# Altium integrated library Altera Cyclone II.IntLib: 234 symbols (part 19 of 38)
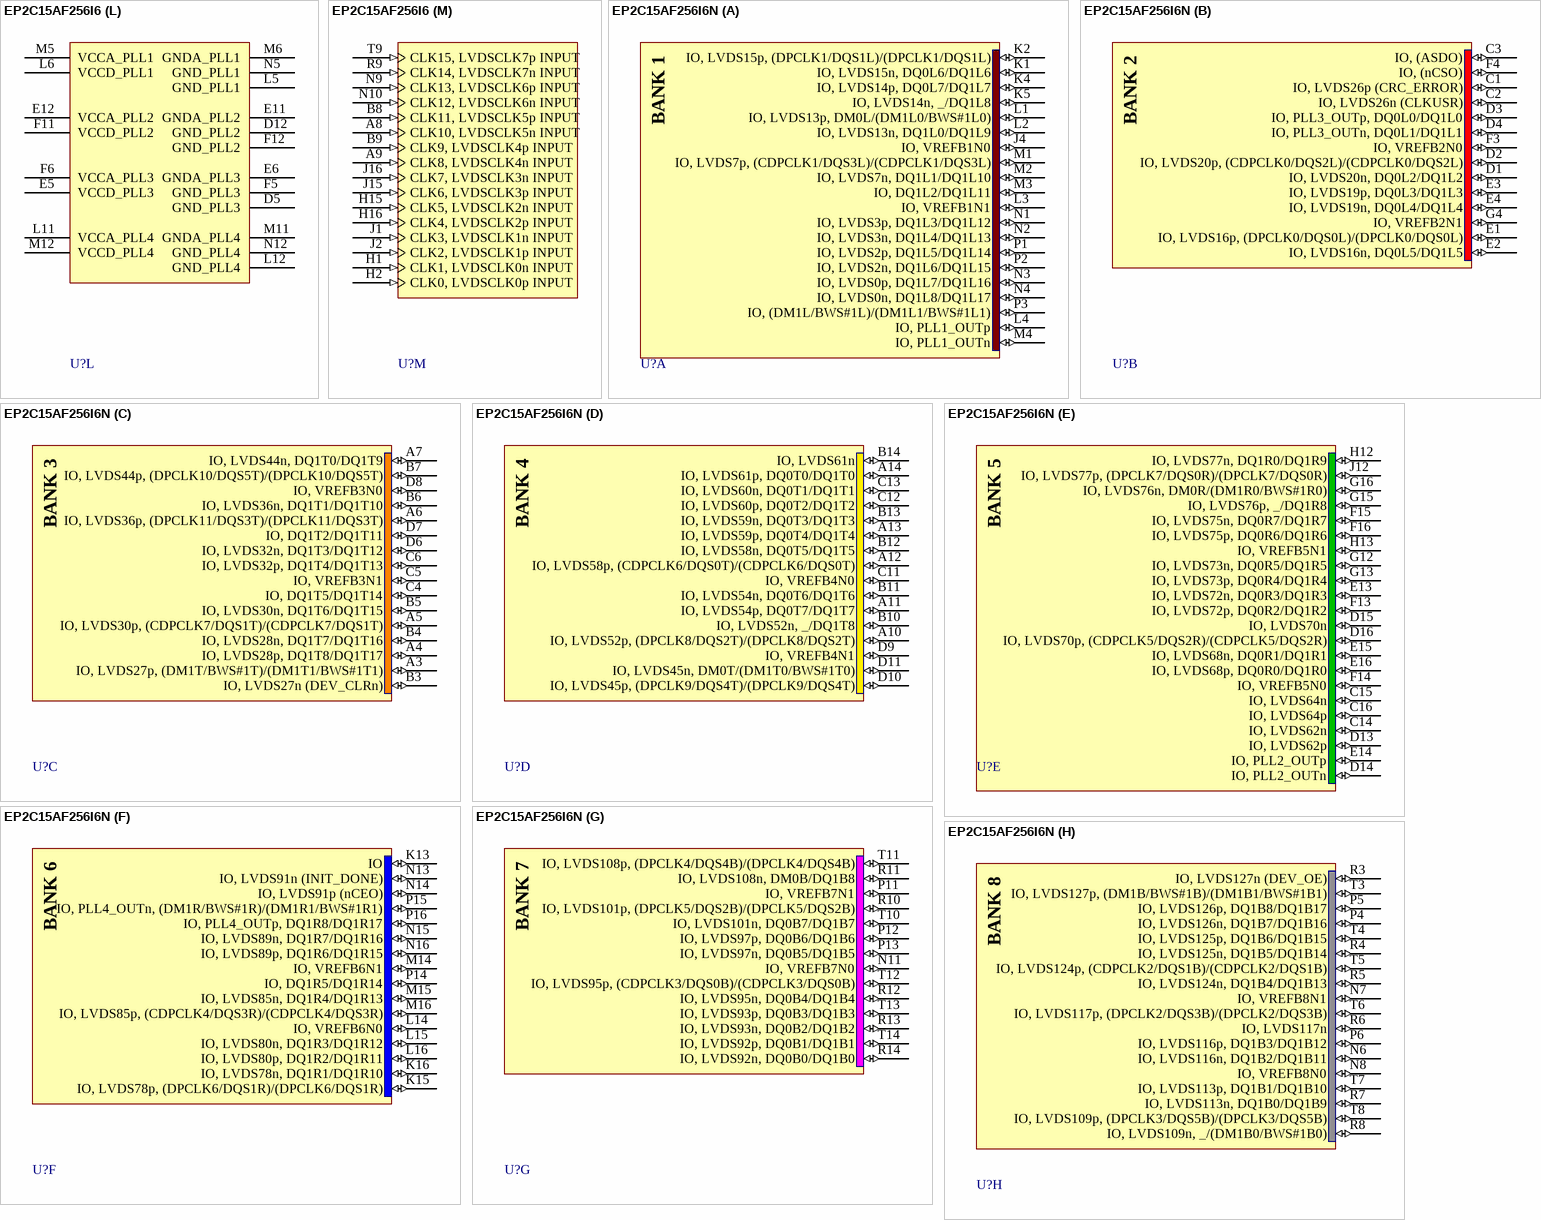
[diagram p409: symbols EP2C15AF256I6 to EP2C15AF256I6N]

## EP2C15AF256I6
designator U?
Cyclone II Family, 1.2V FPGA, 152 I/O Pins, 2 PLLs, 256-Pin FBGA, Speed Grade 6, Industrial Grade; Note: DQS signal pins named according to DQ bus modes.  "/" separates each mode. ie. Modes x8/x9 / Modes x16/x18.; DatasheetVersion: ver3.3, Feb-2008; PackageVersion: ver16.0, Dec-2009; PackageReference: FBGA256-2; PackageDescription: 256-Ball FineLine Ball Grid Array (FBGA256) - Option 2 - Wire Bond; Code_JEDEC: MO-192-DAF-1; ComponentLink1Description: Manufacturer URL; ComponentLink1URL: http://www.altera.com/; ComponentLink2Description: Handbook; ComponentLink2URL: http://www.altera.com/literature/hb/cyc2/cyc2_cii5v1.pdf; ComponentLink3Description: Package Specification; ComponentLink3URL: http://www.altera.com/literature/ds/dspkg.pdf
footprint FBGA256-2 (BGA, 256-Leads, Body 17x17mm, Pitch 1mm)
part A pins: J4 IO, VREFB1N0 (io), K1 IO, LVDS15n, DQ0L6/DQ1L6 (io), K2 IO, LVDS15p, (DPCLK1/DQS1L)/(DPCLK1/DQS1L) (io), K4 IO, LVDS14p, DQ0L7/DQ1L7 (io), K5 IO, LVDS14n, _/DQ1L8 (io), L1 IO, LVDS13p, DM0L/(DM1L0/BWS#1L0) (io), L2 IO, LVDS13n, DQ1L0/DQ1L9 (io), L3 IO, VREFB1N1 (io), L4 IO, PLL1_OUTp (io), M1 IO, LVDS7p, (CDPCLK1/DQS3L)/(CDPCLK1/DQS3L) (io), M2 IO, LVDS7n, DQ1L1/DQ1L10 (io), M3 IO, DQ1L2/DQ1L11 (io), M4 IO, PLL1_OUTn (io), N1 IO, LVDS3p, DQ1L3/DQ1L12 (io), N2 IO, LVDS3n, DQ1L4/DQ1L13 (io), N3 IO, LVDS0p, DQ1L7/DQ1L16 (io), N4 IO, LVDS0n, DQ1L8/DQ1L17 (io), P1 IO, LVDS2p, DQ1L5/DQ1L14 (io), P2 IO, LVDS2n, DQ1L6/DQ1L15 (io), P3 IO, (DM1L/BWS#1L)/(DM1L1/BWS#1L1) (io)
part B pins: C1 IO, LVDS26p (CRC_ERROR) (io), C2 IO, LVDS26n (CLKUSR) (io), C3 IO, (ASDO) (io), D1 IO, LVDS20n, DQ0L2/DQ1L2 (io), D2 IO, LVDS20p, (CDPCLK0/DQS2L)/(CDPCLK0/DQS2L) (io), D3 IO, PLL3_OUTp, DQ0L0/DQ1L0 (io), D4 IO, PLL3_OUTn, DQ0L1/DQ1L1 (io), E1 IO, LVDS16p, (DPCLK0/DQS0L)/(DPCLK0/DQS0L) (io), E2 IO, LVDS16n, DQ0L5/DQ1L5 (io), E3 IO, LVDS19p, DQ0L3/DQ1L3 (io), E4 IO, LVDS19n, DQ0L4/DQ1L4 (io), F3 IO, VREFB2N0 (io), F4 IO, (nCSO) (io), G4 IO, VREFB2N1 (io)
part C pins: A3 IO, LVDS27p, (DM1T/BWS#1T)/(DM1T1/BWS#1T1) (io), A4 IO, LVDS28p, DQ1T8/DQ1T17 (io), A5 IO, LVDS30p, (CDPCLK7/DQS1T)/(CDPCLK7/DQS1T) (io), A6 IO, LVDS36p, (DPCLK11/DQS3T)/(DPCLK11/DQS3T) (io), A7 IO, LVDS44n, DQ1T0/DQ1T9 (io), B3 IO, LVDS27n (DEV_CLRn) (io), B4 IO, LVDS28n, DQ1T7/DQ1T16 (io), B5 IO, LVDS30n, DQ1T6/DQ1T15 (io), B6 IO, LVDS36n, DQ1T1/DQ1T10 (io), B7 IO, LVDS44p, (DPCLK10/DQS5T)/(DPCLK10/DQS5T) (io), C4 IO, DQ1T5/DQ1T14 (io), C5 IO, VREFB3N1 (io), C6 IO, LVDS32p, DQ1T4/DQ1T13 (io), D6 IO, LVDS32n, DQ1T3/DQ1T12 (io), D7 IO, DQ1T2/DQ1T11 (io), D8 IO, VREFB3N0 (io)
part D pins: A10 IO, LVDS52p, (DPCLK8/DQS2T)/(DPCLK8/DQS2T) (io), A11 IO, LVDS54p, DQ0T7/DQ1T7 (io), A12 IO, LVDS58p, (CDPCLK6/DQS0T)/(CDPCLK6/DQS0T) (io), A13 IO, LVDS59p, DQ0T4/DQ1T4 (io), A14 IO, LVDS61p, DQ0T0/DQ1T0 (io), B10 IO, LVDS52n, _/DQ1T8 (io), B11 IO, LVDS54n, DQ0T6/DQ1T6 (io), B12 IO, LVDS58n, DQ0T5/DQ1T5 (io), B13 IO, LVDS59n, DQ0T3/DQ1T3 (io), B14 IO, LVDS61n (io), C11 IO, VREFB4N0 (io), C12 IO, LVDS60p, DQ0T2/DQ1T2 (io), C13 IO, LVDS60n, DQ0T1/DQ1T1 (io), D9 IO, VREFB4N1 (io), D10 IO, LVDS45p, (DPCLK9/DQS4T)/(DPCLK9/DQS4T) (io), D11 IO, LVDS45n, DM0T/(DM1T0/BWS#1T0) (io)
part E pins: C14 IO, LVDS62n (io), C15 IO, LVDS64n (io), C16 IO, LVDS64p (io), D13 IO, LVDS62p (io), D14 IO, PLL2_OUTn (io), D15 IO, LVDS70n (io), D16 IO, LVDS70p, (CDPCLK5/DQS2R)/(CDPCLK5/DQS2R) (io), E13 IO, LVDS72n, DQ0R3/DQ1R3 (io), E14 IO, PLL2_OUTp (io), E15 IO, LVDS68n, DQ0R1/DQ1R1 (io), E16 IO, LVDS68p, DQ0R0/DQ1R0 (io), F13 IO, LVDS72p, DQ0R2/DQ1R2 (io), F14 IO, VREFB5N0 (io), F15 IO, LVDS75n, DQ0R7/DQ1R7 (io), F16 IO, LVDS75p, DQ0R6/DQ1R6 (io), G12 IO, LVDS73n, DQ0R5/DQ1R5 (io), G13 IO, LVDS73p, DQ0R4/DQ1R4 (io), G15 IO, LVDS76p, _/DQ1R8 (io), G16 IO, LVDS76n, DM0R/(DM1R0/BWS#1R0) (io), H12 IO, LVDS77n, DQ1R0/DQ1R9 (io), H13 IO, VREFB5N1 (io), J12 IO, LVDS77p, (DPCLK7/DQS0R)/(DPCLK7/DQS0R) (io)
part F pins: K13 IO (io), K15 IO, LVDS78p, (DPCLK6/DQS1R)/(DPCLK6/DQS1R) (io), K16 IO, LVDS78n, DQ1R1/DQ1R10 (io), L14 IO, VREFB6N0 (io), L15 IO, LVDS80n, DQ1R3/DQ1R12 (io), L16 IO, LVDS80p, DQ1R2/DQ1R11 (io), M14 IO, VREFB6N1 (io), M15 IO, LVDS85n, DQ1R4/DQ1R13 (io), M16 IO, LVDS85p, (CDPCLK4/DQS3R)/(CDPCLK4/DQS3R) (io), N13 IO, LVDS91n (INIT_DONE) (io), N14 IO, LVDS91p (nCEO) (io), N15 IO, LVDS89n, DQ1R7/DQ1R16 (io), N16 IO, LVDS89p, DQ1R6/DQ1R15 (io), P14 IO, DQ1R5/DQ1R14 (io), P15 IO, PLL4_OUTn, (DM1R/BWS#1R)/(DM1R1/BWS#1R1) (io), P16 IO, PLL4_OUTp, DQ1R8/DQ1R17 (io)
part G pins: N11 IO, VREFB7N0 (io), P11 IO, VREFB7N1 (io), P12 IO, LVDS97p, DQ0B6/DQ1B6 (io), P13 IO, LVDS97n, DQ0B5/DQ1B5 (io), R10 IO, LVDS101p, (DPCLK5/DQS2B)/(DPCLK5/DQS2B) (io), R11 IO, LVDS108n, DM0B/DQ1B8 (io), R12 IO, LVDS95n, DQ0B4/DQ1B4 (io), R13 IO, LVDS93n, DQ0B2/DQ1B2 (io), R14 IO, LVDS92n, DQ0B0/DQ1B0 (io), T10 IO, LVDS101n, DQ0B7/DQ1B7 (io), T11 IO, LVDS108p, (DPCLK4/DQS4B)/(DPCLK4/DQS4B) (io), T12 IO, LVDS95p, (CDPCLK3/DQS0B)/(CDPCLK3/DQS0B) (io), T13 IO, LVDS93p, DQ0B3/DQ1B3 (io), T14 IO, LVDS92p, DQ0B1/DQ1B1 (io)
part H pins: N6 IO, LVDS116n, DQ1B2/DQ1B11 (io), N7 IO, VREFB8N1 (io), N8 IO, VREFB8N0 (io), P4 IO, LVDS126n, DQ1B7/DQ1B16 (io), P5 IO, LVDS126p, DQ1B8/DQ1B17 (io), P6 IO, LVDS116p, DQ1B3/DQ1B12 (io), R3 IO, LVDS127n (DEV_OE) (io), R4 IO, LVDS125n, DQ1B5/DQ1B14 (io), R5 IO, LVDS124n, DQ1B4/DQ1B13 (io), R6 IO, LVDS117n (io), R7 IO, LVDS113n, DQ1B0/DQ1B9 (io), R8 IO, LVDS109n, _/(DM1B0/BWS#1B0) (io), T3 IO, LVDS127p, (DM1B/BWS#1B)/(DM1B1/BWS#1B1) (io), T4 IO, LVDS125p, DQ1B6/DQ1B15 (io), T5 IO, LVDS124p, (CDPCLK2/DQS1B)/(CDPCLK2/DQS1B) (io), T6 IO, LVDS117p, (DPCLK2/DQS3B)/(DPCLK2/DQS3B) (io), T7 IO, LVDS113p, DQ1B1/DQ1B10 (io), T8 IO, LVDS109p, (DPCLK3/DQS5B)/(DPCLK3/DQS5B) (io)
part I pins: F1 DATA0 (in), F2 TCK (in), G1 TMS (in), G2 TDO (out), G5 nCE (in), H4 DCLK (io), H5 TDI (in), J5 nCONFIG (in), J13 MSEL0 (in), K12 MSEL1 (in), L13 CONF_DONE (io), M13 nSTATUS (io)
part J pins: A2 VCCIO3 (power), A15 VCCIO4 (power), B1 VCCIO2 (power), B16 VCCIO5 (power), C7 VCCIO3 (power), C10 VCCIO4 (power), E7 VCCIO3 (power), E10 VCCIO4 (power), F9 VCCINT (power), F10 VCCINT (power), G3 VCCIO2 (power), G7 VCCINT (power), G9 VCCINT (power), G11 VCCINT (power), G14 VCCIO5 (power), H7 VCCINT (power), H10 VCCINT (power), H11 VCCINT (power), J6 VCCINT (power), J7 VCCINT (power), J10 VCCINT (power), K3 VCCIO1 (power), K6 VCCINT (power), K8 VCCINT (power), K10 VCCINT (power), K14 VCCIO6 (power), L7 VCCINT (power), L8 VCCINT (power), M7 VCCIO8 (power), M10 VCCIO7 (power), P7 VCCIO8 (power), P10 VCCIO7 (power), R1 VCCIO1 (power), R16 VCCIO6 (power), T2 VCCIO8 (power), T15 VCCIO7 (power)
part K pins: A1 GND (power), A16 GND (power), B2 GND (power), B15 GND (power), C8 GND (power), C9 GND (power), E8 GND (power), E9 GND (power), F7 GND (power), F8 GND (power), G6 GND (power), G8 GND (power), G10 GND (power), H3 GND (power), H6 GND (power), H8 GND (power), H9 GND (power), H14 GND (power), J3 GND (power), J8 GND (power), J9 GND (power), J11 GND (power), J14 GND (power), K7 GND (power), K9 GND (power), K11 GND (power), L9 GND (power), L10 GND (power), M8 GND (power), M9 GND (power), P8 GND (power), P9 GND (power), R2 GND (power), R15 GND (power), T1 GND (power), T16 GND (power)
part L pins: D5 GND_PLL3 (power), D12 GND_PLL2 (power), E5 VCCD_PLL3 (power), E6 GNDA_PLL3 (power), E11 GNDA_PLL2 (power), E12 VCCA_PLL2 (power), F5 GND_PLL3 (power), F6 VCCA_PLL3 (power), F11 VCCD_PLL2 (power), F12 GND_PLL2 (power), L5 GND_PLL1 (power), L6 VCCD_PLL1 (power), L11 VCCA_PLL4 (power), L12 GND_PLL4 (power), M5 VCCA_PLL1 (power), M6 GNDA_PLL1 (power), M11 GNDA_PLL4 (power), M12 VCCD_PLL4 (power), N5 GND_PLL1 (power), N12 GND_PLL4 (power)
part M pins: A8 CLK10, LVDSCLK5n INPUT (in), A9 CLK8, LVDSCLK4n INPUT (in), B8 CLK11, LVDSCLK5p INPUT (in), B9 CLK9, LVDSCLK4p INPUT (in), H1 CLK1, LVDSCLK0n INPUT (in), H2 CLK0, LVDSCLK0p INPUT (in), H15 CLK5, LVDSCLK2n INPUT (in), H16 CLK4, LVDSCLK2p INPUT (in), J1 CLK3, LVDSCLK1n INPUT (in), J2 CLK2, LVDSCLK1p INPUT (in), J15 CLK6, LVDSCLK3p INPUT (in), J16 CLK7, LVDSCLK3n INPUT (in), N9 CLK13, LVDSCLK6p INPUT (in), N10 CLK12, LVDSCLK6n INPUT (in), R9 CLK14, LVDSCLK7n INPUT (in), T9 CLK15, LVDSCLK7p INPUT (in)
part A text: BANK 1
part B text: BANK 2
part C text: BANK 3
part D text: BANK 4
part E text: BANK 5
part F text: BANK 6
part G text: BANK 7
part H text: BANK 8

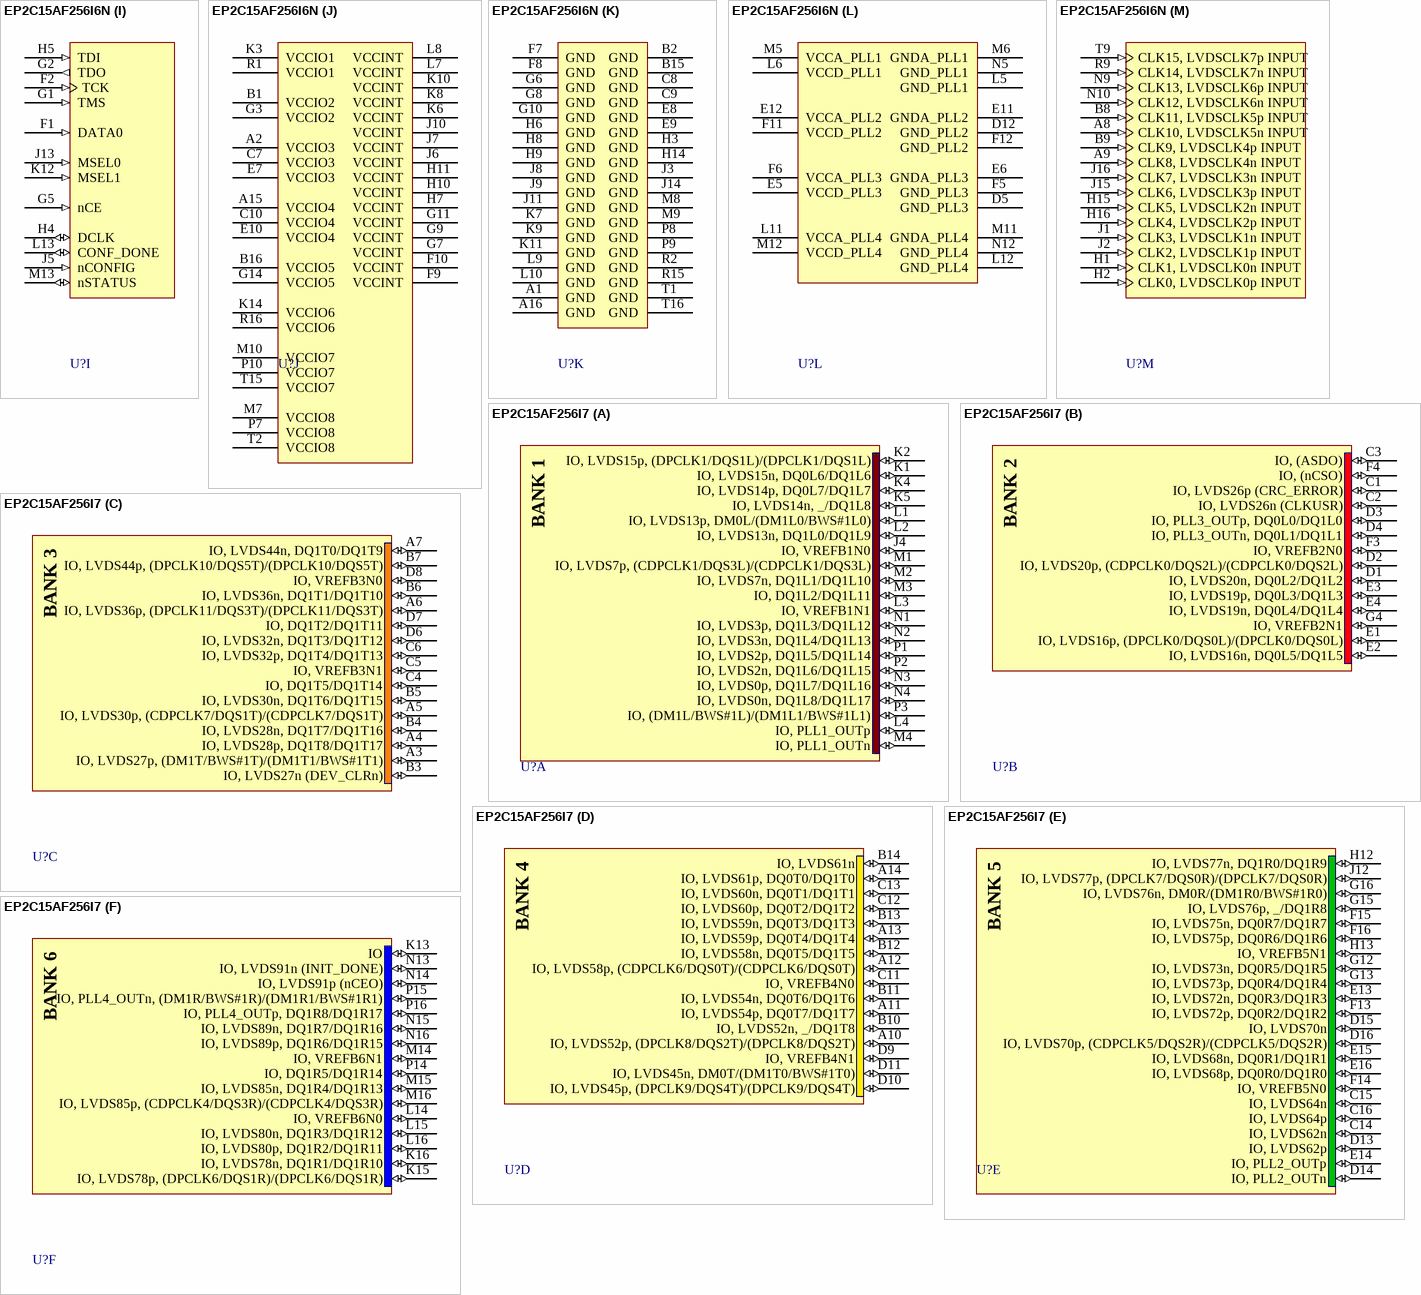
[diagram p75: symbols EP2C15AF256I6N to EP2C15AF256I7]

## EP2C15AF256I6N
designator U?
Cyclone II Family, 1.2V FPGA, 152 I/O Pins, 2 PLLs, 256-Pin FBGA, Speed Grade 6, Industrial Grade, Pb-Free; Note: DQS signal pins named according to DQ bus modes.  "/" separates each mode. ie. Modes x8/x9 / Modes x16/x18.; DatasheetVersion: ver3.3, Feb-2008; PackageVersion: ver16.0, Dec-2009; PackageReference: FBGA256-2; PackageDescription: 256-Ball FineLine Ball Grid Array (FBGA256) - Option 2 - Wire Bond; Code_JEDEC: MO-192-DAF-1; ComponentLink1Description: Manufacturer URL; ComponentLink1URL: http://www.altera.com/; ComponentLink2Description: Handbook; ComponentLink2URL: http://www.altera.com/literature/hb/cyc2/cyc2_cii5v1.pdf; ComponentLink3Description: Package Specification; ComponentLink3URL: http://www.altera.com/literature/ds/dspkg.pdf
footprint FBGA256-2 (BGA, 256-Leads, Body 17x17mm, Pitch 1mm)
part A pins: J4 IO, VREFB1N0 (io), K1 IO, LVDS15n, DQ0L6/DQ1L6 (io), K2 IO, LVDS15p, (DPCLK1/DQS1L)/(DPCLK1/DQS1L) (io), K4 IO, LVDS14p, DQ0L7/DQ1L7 (io), K5 IO, LVDS14n, _/DQ1L8 (io), L1 IO, LVDS13p, DM0L/(DM1L0/BWS#1L0) (io), L2 IO, LVDS13n, DQ1L0/DQ1L9 (io), L3 IO, VREFB1N1 (io), L4 IO, PLL1_OUTp (io), M1 IO, LVDS7p, (CDPCLK1/DQS3L)/(CDPCLK1/DQS3L) (io), M2 IO, LVDS7n, DQ1L1/DQ1L10 (io), M3 IO, DQ1L2/DQ1L11 (io), M4 IO, PLL1_OUTn (io), N1 IO, LVDS3p, DQ1L3/DQ1L12 (io), N2 IO, LVDS3n, DQ1L4/DQ1L13 (io), N3 IO, LVDS0p, DQ1L7/DQ1L16 (io), N4 IO, LVDS0n, DQ1L8/DQ1L17 (io), P1 IO, LVDS2p, DQ1L5/DQ1L14 (io), P2 IO, LVDS2n, DQ1L6/DQ1L15 (io), P3 IO, (DM1L/BWS#1L)/(DM1L1/BWS#1L1) (io)
part B pins: C1 IO, LVDS26p (CRC_ERROR) (io), C2 IO, LVDS26n (CLKUSR) (io), C3 IO, (ASDO) (io), D1 IO, LVDS20n, DQ0L2/DQ1L2 (io), D2 IO, LVDS20p, (CDPCLK0/DQS2L)/(CDPCLK0/DQS2L) (io), D3 IO, PLL3_OUTp, DQ0L0/DQ1L0 (io), D4 IO, PLL3_OUTn, DQ0L1/DQ1L1 (io), E1 IO, LVDS16p, (DPCLK0/DQS0L)/(DPCLK0/DQS0L) (io), E2 IO, LVDS16n, DQ0L5/DQ1L5 (io), E3 IO, LVDS19p, DQ0L3/DQ1L3 (io), E4 IO, LVDS19n, DQ0L4/DQ1L4 (io), F3 IO, VREFB2N0 (io), F4 IO, (nCSO) (io), G4 IO, VREFB2N1 (io)
part C pins: A3 IO, LVDS27p, (DM1T/BWS#1T)/(DM1T1/BWS#1T1) (io), A4 IO, LVDS28p, DQ1T8/DQ1T17 (io), A5 IO, LVDS30p, (CDPCLK7/DQS1T)/(CDPCLK7/DQS1T) (io), A6 IO, LVDS36p, (DPCLK11/DQS3T)/(DPCLK11/DQS3T) (io), A7 IO, LVDS44n, DQ1T0/DQ1T9 (io), B3 IO, LVDS27n (DEV_CLRn) (io), B4 IO, LVDS28n, DQ1T7/DQ1T16 (io), B5 IO, LVDS30n, DQ1T6/DQ1T15 (io), B6 IO, LVDS36n, DQ1T1/DQ1T10 (io), B7 IO, LVDS44p, (DPCLK10/DQS5T)/(DPCLK10/DQS5T) (io), C4 IO, DQ1T5/DQ1T14 (io), C5 IO, VREFB3N1 (io), C6 IO, LVDS32p, DQ1T4/DQ1T13 (io), D6 IO, LVDS32n, DQ1T3/DQ1T12 (io), D7 IO, DQ1T2/DQ1T11 (io), D8 IO, VREFB3N0 (io)
part D pins: A10 IO, LVDS52p, (DPCLK8/DQS2T)/(DPCLK8/DQS2T) (io), A11 IO, LVDS54p, DQ0T7/DQ1T7 (io), A12 IO, LVDS58p, (CDPCLK6/DQS0T)/(CDPCLK6/DQS0T) (io), A13 IO, LVDS59p, DQ0T4/DQ1T4 (io), A14 IO, LVDS61p, DQ0T0/DQ1T0 (io), B10 IO, LVDS52n, _/DQ1T8 (io), B11 IO, LVDS54n, DQ0T6/DQ1T6 (io), B12 IO, LVDS58n, DQ0T5/DQ1T5 (io), B13 IO, LVDS59n, DQ0T3/DQ1T3 (io), B14 IO, LVDS61n (io), C11 IO, VREFB4N0 (io), C12 IO, LVDS60p, DQ0T2/DQ1T2 (io), C13 IO, LVDS60n, DQ0T1/DQ1T1 (io), D9 IO, VREFB4N1 (io), D10 IO, LVDS45p, (DPCLK9/DQS4T)/(DPCLK9/DQS4T) (io), D11 IO, LVDS45n, DM0T/(DM1T0/BWS#1T0) (io)
part E pins: C14 IO, LVDS62n (io), C15 IO, LVDS64n (io), C16 IO, LVDS64p (io), D13 IO, LVDS62p (io), D14 IO, PLL2_OUTn (io), D15 IO, LVDS70n (io), D16 IO, LVDS70p, (CDPCLK5/DQS2R)/(CDPCLK5/DQS2R) (io), E13 IO, LVDS72n, DQ0R3/DQ1R3 (io), E14 IO, PLL2_OUTp (io), E15 IO, LVDS68n, DQ0R1/DQ1R1 (io), E16 IO, LVDS68p, DQ0R0/DQ1R0 (io), F13 IO, LVDS72p, DQ0R2/DQ1R2 (io), F14 IO, VREFB5N0 (io), F15 IO, LVDS75n, DQ0R7/DQ1R7 (io), F16 IO, LVDS75p, DQ0R6/DQ1R6 (io), G12 IO, LVDS73n, DQ0R5/DQ1R5 (io), G13 IO, LVDS73p, DQ0R4/DQ1R4 (io), G15 IO, LVDS76p, _/DQ1R8 (io), G16 IO, LVDS76n, DM0R/(DM1R0/BWS#1R0) (io), H12 IO, LVDS77n, DQ1R0/DQ1R9 (io), H13 IO, VREFB5N1 (io), J12 IO, LVDS77p, (DPCLK7/DQS0R)/(DPCLK7/DQS0R) (io)
part F pins: K13 IO (io), K15 IO, LVDS78p, (DPCLK6/DQS1R)/(DPCLK6/DQS1R) (io), K16 IO, LVDS78n, DQ1R1/DQ1R10 (io), L14 IO, VREFB6N0 (io), L15 IO, LVDS80n, DQ1R3/DQ1R12 (io), L16 IO, LVDS80p, DQ1R2/DQ1R11 (io), M14 IO, VREFB6N1 (io), M15 IO, LVDS85n, DQ1R4/DQ1R13 (io), M16 IO, LVDS85p, (CDPCLK4/DQS3R)/(CDPCLK4/DQS3R) (io), N13 IO, LVDS91n (INIT_DONE) (io), N14 IO, LVDS91p (nCEO) (io), N15 IO, LVDS89n, DQ1R7/DQ1R16 (io), N16 IO, LVDS89p, DQ1R6/DQ1R15 (io), P14 IO, DQ1R5/DQ1R14 (io), P15 IO, PLL4_OUTn, (DM1R/BWS#1R)/(DM1R1/BWS#1R1) (io), P16 IO, PLL4_OUTp, DQ1R8/DQ1R17 (io)
part G pins: N11 IO, VREFB7N0 (io), P11 IO, VREFB7N1 (io), P12 IO, LVDS97p, DQ0B6/DQ1B6 (io), P13 IO, LVDS97n, DQ0B5/DQ1B5 (io), R10 IO, LVDS101p, (DPCLK5/DQS2B)/(DPCLK5/DQS2B) (io), R11 IO, LVDS108n, DM0B/DQ1B8 (io), R12 IO, LVDS95n, DQ0B4/DQ1B4 (io), R13 IO, LVDS93n, DQ0B2/DQ1B2 (io), R14 IO, LVDS92n, DQ0B0/DQ1B0 (io), T10 IO, LVDS101n, DQ0B7/DQ1B7 (io), T11 IO, LVDS108p, (DPCLK4/DQS4B)/(DPCLK4/DQS4B) (io), T12 IO, LVDS95p, (CDPCLK3/DQS0B)/(CDPCLK3/DQS0B) (io), T13 IO, LVDS93p, DQ0B3/DQ1B3 (io), T14 IO, LVDS92p, DQ0B1/DQ1B1 (io)
part H pins: N6 IO, LVDS116n, DQ1B2/DQ1B11 (io), N7 IO, VREFB8N1 (io), N8 IO, VREFB8N0 (io), P4 IO, LVDS126n, DQ1B7/DQ1B16 (io), P5 IO, LVDS126p, DQ1B8/DQ1B17 (io), P6 IO, LVDS116p, DQ1B3/DQ1B12 (io), R3 IO, LVDS127n (DEV_OE) (io), R4 IO, LVDS125n, DQ1B5/DQ1B14 (io), R5 IO, LVDS124n, DQ1B4/DQ1B13 (io), R6 IO, LVDS117n (io), R7 IO, LVDS113n, DQ1B0/DQ1B9 (io), R8 IO, LVDS109n, _/(DM1B0/BWS#1B0) (io), T3 IO, LVDS127p, (DM1B/BWS#1B)/(DM1B1/BWS#1B1) (io), T4 IO, LVDS125p, DQ1B6/DQ1B15 (io), T5 IO, LVDS124p, (CDPCLK2/DQS1B)/(CDPCLK2/DQS1B) (io), T6 IO, LVDS117p, (DPCLK2/DQS3B)/(DPCLK2/DQS3B) (io), T7 IO, LVDS113p, DQ1B1/DQ1B10 (io), T8 IO, LVDS109p, (DPCLK3/DQS5B)/(DPCLK3/DQS5B) (io)
part I pins: F1 DATA0 (in), F2 TCK (in), G1 TMS (in), G2 TDO (out), G5 nCE (in), H4 DCLK (io), H5 TDI (in), J5 nCONFIG (in), J13 MSEL0 (in), K12 MSEL1 (in), L13 CONF_DONE (io), M13 nSTATUS (io)
part J pins: A2 VCCIO3 (power), A15 VCCIO4 (power), B1 VCCIO2 (power), B16 VCCIO5 (power), C7 VCCIO3 (power), C10 VCCIO4 (power), E7 VCCIO3 (power), E10 VCCIO4 (power), F9 VCCINT (power), F10 VCCINT (power), G3 VCCIO2 (power), G7 VCCINT (power), G9 VCCINT (power), G11 VCCINT (power), G14 VCCIO5 (power), H7 VCCINT (power), H10 VCCINT (power), H11 VCCINT (power), J6 VCCINT (power), J7 VCCINT (power), J10 VCCINT (power), K3 VCCIO1 (power), K6 VCCINT (power), K8 VCCINT (power), K10 VCCINT (power), K14 VCCIO6 (power), L7 VCCINT (power), L8 VCCINT (power), M7 VCCIO8 (power), M10 VCCIO7 (power), P7 VCCIO8 (power), P10 VCCIO7 (power), R1 VCCIO1 (power), R16 VCCIO6 (power), T2 VCCIO8 (power), T15 VCCIO7 (power)
part K pins: A1 GND (power), A16 GND (power), B2 GND (power), B15 GND (power), C8 GND (power), C9 GND (power), E8 GND (power), E9 GND (power), F7 GND (power), F8 GND (power), G6 GND (power), G8 GND (power), G10 GND (power), H3 GND (power), H6 GND (power), H8 GND (power), H9 GND (power), H14 GND (power), J3 GND (power), J8 GND (power), J9 GND (power), J11 GND (power), J14 GND (power), K7 GND (power), K9 GND (power), K11 GND (power), L9 GND (power), L10 GND (power), M8 GND (power), M9 GND (power), P8 GND (power), P9 GND (power), R2 GND (power), R15 GND (power), T1 GND (power), T16 GND (power)
part L pins: D5 GND_PLL3 (power), D12 GND_PLL2 (power), E5 VCCD_PLL3 (power), E6 GNDA_PLL3 (power), E11 GNDA_PLL2 (power), E12 VCCA_PLL2 (power), F5 GND_PLL3 (power), F6 VCCA_PLL3 (power), F11 VCCD_PLL2 (power), F12 GND_PLL2 (power), L5 GND_PLL1 (power), L6 VCCD_PLL1 (power), L11 VCCA_PLL4 (power), L12 GND_PLL4 (power), M5 VCCA_PLL1 (power), M6 GNDA_PLL1 (power), M11 GNDA_PLL4 (power), M12 VCCD_PLL4 (power), N5 GND_PLL1 (power), N12 GND_PLL4 (power)
part M pins: A8 CLK10, LVDSCLK5n INPUT (in), A9 CLK8, LVDSCLK4n INPUT (in), B8 CLK11, LVDSCLK5p INPUT (in), B9 CLK9, LVDSCLK4p INPUT (in), H1 CLK1, LVDSCLK0n INPUT (in), H2 CLK0, LVDSCLK0p INPUT (in), H15 CLK5, LVDSCLK2n INPUT (in), H16 CLK4, LVDSCLK2p INPUT (in), J1 CLK3, LVDSCLK1n INPUT (in), J2 CLK2, LVDSCLK1p INPUT (in), J15 CLK6, LVDSCLK3p INPUT (in), J16 CLK7, LVDSCLK3n INPUT (in), N9 CLK13, LVDSCLK6p INPUT (in), N10 CLK12, LVDSCLK6n INPUT (in), R9 CLK14, LVDSCLK7n INPUT (in), T9 CLK15, LVDSCLK7p INPUT (in)
part A text: BANK 1
part B text: BANK 2
part C text: BANK 3
part D text: BANK 4
part E text: BANK 5
part F text: BANK 6
part G text: BANK 7
part H text: BANK 8

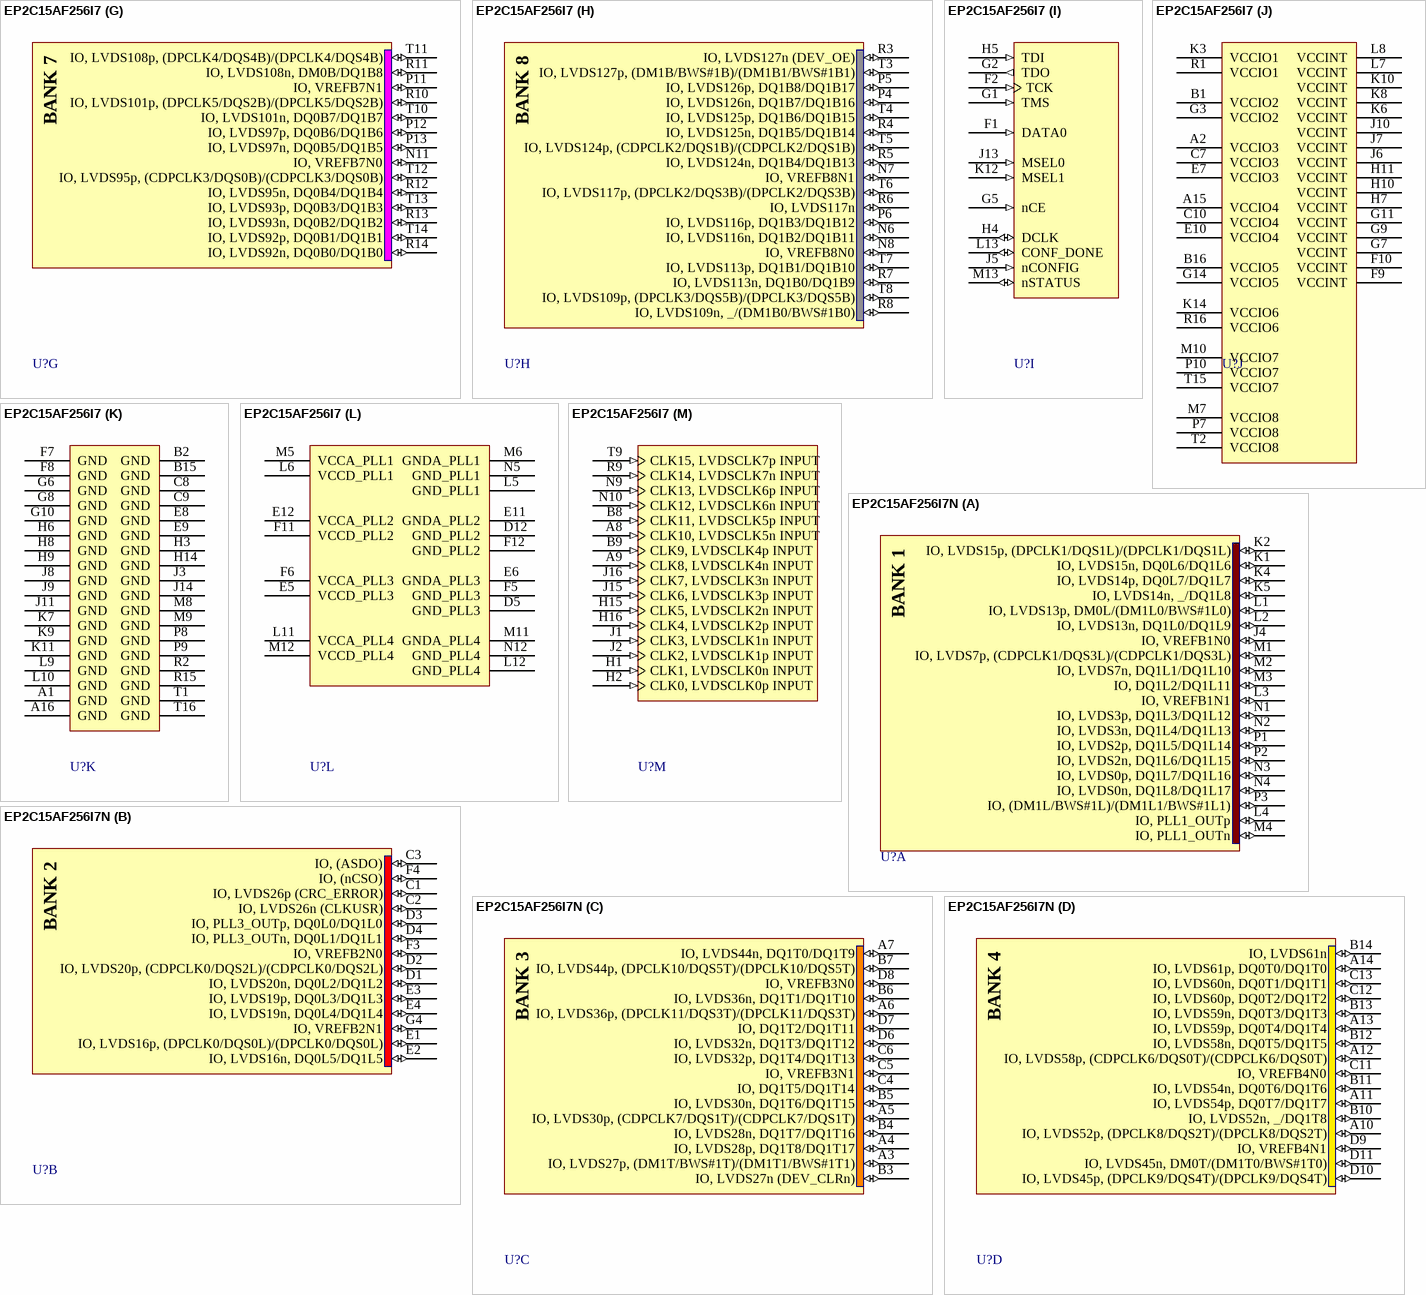
[diagram p76: symbols EP2C15AF256I7 to EP2C15AF256I7N]

## EP2C15AF256I7
designator U?
Cyclone II Family, 1.2V FPGA, 152 I/O Pins, 2 PLLs, 256-Pin FBGA, Speed Grade 7, Industrial Grade; Note: DQS signal pins named according to DQ bus modes.  "/" separates each mode. ie. Modes x8/x9 / Modes x16/x18.; DatasheetVersion: ver3.3, Feb-2008; PackageVersion: ver16.0, Dec-2009; PackageReference: FBGA256-2; PackageDescription: 256-Ball FineLine Ball Grid Array (FBGA256) - Option 2 - Wire Bond; Code_JEDEC: MO-192-DAF-1; ComponentLink1Description: Manufacturer URL; ComponentLink1URL: http://www.altera.com/; ComponentLink2Description: Handbook; ComponentLink2URL: http://www.altera.com/literature/hb/cyc2/cyc2_cii5v1.pdf; ComponentLink3Description: Package Specification; ComponentLink3URL: http://www.altera.com/literature/ds/dspkg.pdf
footprint FBGA256-2 (BGA, 256-Leads, Body 17x17mm, Pitch 1mm)
part A pins: J4 IO, VREFB1N0 (io), K1 IO, LVDS15n, DQ0L6/DQ1L6 (io), K2 IO, LVDS15p, (DPCLK1/DQS1L)/(DPCLK1/DQS1L) (io), K4 IO, LVDS14p, DQ0L7/DQ1L7 (io), K5 IO, LVDS14n, _/DQ1L8 (io), L1 IO, LVDS13p, DM0L/(DM1L0/BWS#1L0) (io), L2 IO, LVDS13n, DQ1L0/DQ1L9 (io), L3 IO, VREFB1N1 (io), L4 IO, PLL1_OUTp (io), M1 IO, LVDS7p, (CDPCLK1/DQS3L)/(CDPCLK1/DQS3L) (io), M2 IO, LVDS7n, DQ1L1/DQ1L10 (io), M3 IO, DQ1L2/DQ1L11 (io), M4 IO, PLL1_OUTn (io), N1 IO, LVDS3p, DQ1L3/DQ1L12 (io), N2 IO, LVDS3n, DQ1L4/DQ1L13 (io), N3 IO, LVDS0p, DQ1L7/DQ1L16 (io), N4 IO, LVDS0n, DQ1L8/DQ1L17 (io), P1 IO, LVDS2p, DQ1L5/DQ1L14 (io), P2 IO, LVDS2n, DQ1L6/DQ1L15 (io), P3 IO, (DM1L/BWS#1L)/(DM1L1/BWS#1L1) (io)
part B pins: C1 IO, LVDS26p (CRC_ERROR) (io), C2 IO, LVDS26n (CLKUSR) (io), C3 IO, (ASDO) (io), D1 IO, LVDS20n, DQ0L2/DQ1L2 (io), D2 IO, LVDS20p, (CDPCLK0/DQS2L)/(CDPCLK0/DQS2L) (io), D3 IO, PLL3_OUTp, DQ0L0/DQ1L0 (io), D4 IO, PLL3_OUTn, DQ0L1/DQ1L1 (io), E1 IO, LVDS16p, (DPCLK0/DQS0L)/(DPCLK0/DQS0L) (io), E2 IO, LVDS16n, DQ0L5/DQ1L5 (io), E3 IO, LVDS19p, DQ0L3/DQ1L3 (io), E4 IO, LVDS19n, DQ0L4/DQ1L4 (io), F3 IO, VREFB2N0 (io), F4 IO, (nCSO) (io), G4 IO, VREFB2N1 (io)
part C pins: A3 IO, LVDS27p, (DM1T/BWS#1T)/(DM1T1/BWS#1T1) (io), A4 IO, LVDS28p, DQ1T8/DQ1T17 (io), A5 IO, LVDS30p, (CDPCLK7/DQS1T)/(CDPCLK7/DQS1T) (io), A6 IO, LVDS36p, (DPCLK11/DQS3T)/(DPCLK11/DQS3T) (io), A7 IO, LVDS44n, DQ1T0/DQ1T9 (io), B3 IO, LVDS27n (DEV_CLRn) (io), B4 IO, LVDS28n, DQ1T7/DQ1T16 (io), B5 IO, LVDS30n, DQ1T6/DQ1T15 (io), B6 IO, LVDS36n, DQ1T1/DQ1T10 (io), B7 IO, LVDS44p, (DPCLK10/DQS5T)/(DPCLK10/DQS5T) (io), C4 IO, DQ1T5/DQ1T14 (io), C5 IO, VREFB3N1 (io), C6 IO, LVDS32p, DQ1T4/DQ1T13 (io), D6 IO, LVDS32n, DQ1T3/DQ1T12 (io), D7 IO, DQ1T2/DQ1T11 (io), D8 IO, VREFB3N0 (io)
part D pins: A10 IO, LVDS52p, (DPCLK8/DQS2T)/(DPCLK8/DQS2T) (io), A11 IO, LVDS54p, DQ0T7/DQ1T7 (io), A12 IO, LVDS58p, (CDPCLK6/DQS0T)/(CDPCLK6/DQS0T) (io), A13 IO, LVDS59p, DQ0T4/DQ1T4 (io), A14 IO, LVDS61p, DQ0T0/DQ1T0 (io), B10 IO, LVDS52n, _/DQ1T8 (io), B11 IO, LVDS54n, DQ0T6/DQ1T6 (io), B12 IO, LVDS58n, DQ0T5/DQ1T5 (io), B13 IO, LVDS59n, DQ0T3/DQ1T3 (io), B14 IO, LVDS61n (io), C11 IO, VREFB4N0 (io), C12 IO, LVDS60p, DQ0T2/DQ1T2 (io), C13 IO, LVDS60n, DQ0T1/DQ1T1 (io), D9 IO, VREFB4N1 (io), D10 IO, LVDS45p, (DPCLK9/DQS4T)/(DPCLK9/DQS4T) (io), D11 IO, LVDS45n, DM0T/(DM1T0/BWS#1T0) (io)
part E pins: C14 IO, LVDS62n (io), C15 IO, LVDS64n (io), C16 IO, LVDS64p (io), D13 IO, LVDS62p (io), D14 IO, PLL2_OUTn (io), D15 IO, LVDS70n (io), D16 IO, LVDS70p, (CDPCLK5/DQS2R)/(CDPCLK5/DQS2R) (io), E13 IO, LVDS72n, DQ0R3/DQ1R3 (io), E14 IO, PLL2_OUTp (io), E15 IO, LVDS68n, DQ0R1/DQ1R1 (io), E16 IO, LVDS68p, DQ0R0/DQ1R0 (io), F13 IO, LVDS72p, DQ0R2/DQ1R2 (io), F14 IO, VREFB5N0 (io), F15 IO, LVDS75n, DQ0R7/DQ1R7 (io), F16 IO, LVDS75p, DQ0R6/DQ1R6 (io), G12 IO, LVDS73n, DQ0R5/DQ1R5 (io), G13 IO, LVDS73p, DQ0R4/DQ1R4 (io), G15 IO, LVDS76p, _/DQ1R8 (io), G16 IO, LVDS76n, DM0R/(DM1R0/BWS#1R0) (io), H12 IO, LVDS77n, DQ1R0/DQ1R9 (io), H13 IO, VREFB5N1 (io), J12 IO, LVDS77p, (DPCLK7/DQS0R)/(DPCLK7/DQS0R) (io)
part F pins: K13 IO (io), K15 IO, LVDS78p, (DPCLK6/DQS1R)/(DPCLK6/DQS1R) (io), K16 IO, LVDS78n, DQ1R1/DQ1R10 (io), L14 IO, VREFB6N0 (io), L15 IO, LVDS80n, DQ1R3/DQ1R12 (io), L16 IO, LVDS80p, DQ1R2/DQ1R11 (io), M14 IO, VREFB6N1 (io), M15 IO, LVDS85n, DQ1R4/DQ1R13 (io), M16 IO, LVDS85p, (CDPCLK4/DQS3R)/(CDPCLK4/DQS3R) (io), N13 IO, LVDS91n (INIT_DONE) (io), N14 IO, LVDS91p (nCEO) (io), N15 IO, LVDS89n, DQ1R7/DQ1R16 (io), N16 IO, LVDS89p, DQ1R6/DQ1R15 (io), P14 IO, DQ1R5/DQ1R14 (io), P15 IO, PLL4_OUTn, (DM1R/BWS#1R)/(DM1R1/BWS#1R1) (io), P16 IO, PLL4_OUTp, DQ1R8/DQ1R17 (io)
part G pins: N11 IO, VREFB7N0 (io), P11 IO, VREFB7N1 (io), P12 IO, LVDS97p, DQ0B6/DQ1B6 (io), P13 IO, LVDS97n, DQ0B5/DQ1B5 (io), R10 IO, LVDS101p, (DPCLK5/DQS2B)/(DPCLK5/DQS2B) (io), R11 IO, LVDS108n, DM0B/DQ1B8 (io), R12 IO, LVDS95n, DQ0B4/DQ1B4 (io), R13 IO, LVDS93n, DQ0B2/DQ1B2 (io), R14 IO, LVDS92n, DQ0B0/DQ1B0 (io), T10 IO, LVDS101n, DQ0B7/DQ1B7 (io), T11 IO, LVDS108p, (DPCLK4/DQS4B)/(DPCLK4/DQS4B) (io), T12 IO, LVDS95p, (CDPCLK3/DQS0B)/(CDPCLK3/DQS0B) (io), T13 IO, LVDS93p, DQ0B3/DQ1B3 (io), T14 IO, LVDS92p, DQ0B1/DQ1B1 (io)
part H pins: N6 IO, LVDS116n, DQ1B2/DQ1B11 (io), N7 IO, VREFB8N1 (io), N8 IO, VREFB8N0 (io), P4 IO, LVDS126n, DQ1B7/DQ1B16 (io), P5 IO, LVDS126p, DQ1B8/DQ1B17 (io), P6 IO, LVDS116p, DQ1B3/DQ1B12 (io), R3 IO, LVDS127n (DEV_OE) (io), R4 IO, LVDS125n, DQ1B5/DQ1B14 (io), R5 IO, LVDS124n, DQ1B4/DQ1B13 (io), R6 IO, LVDS117n (io), R7 IO, LVDS113n, DQ1B0/DQ1B9 (io), R8 IO, LVDS109n, _/(DM1B0/BWS#1B0) (io), T3 IO, LVDS127p, (DM1B/BWS#1B)/(DM1B1/BWS#1B1) (io), T4 IO, LVDS125p, DQ1B6/DQ1B15 (io), T5 IO, LVDS124p, (CDPCLK2/DQS1B)/(CDPCLK2/DQS1B) (io), T6 IO, LVDS117p, (DPCLK2/DQS3B)/(DPCLK2/DQS3B) (io), T7 IO, LVDS113p, DQ1B1/DQ1B10 (io), T8 IO, LVDS109p, (DPCLK3/DQS5B)/(DPCLK3/DQS5B) (io)
part I pins: F1 DATA0 (in), F2 TCK (in), G1 TMS (in), G2 TDO (out), G5 nCE (in), H4 DCLK (io), H5 TDI (in), J5 nCONFIG (in), J13 MSEL0 (in), K12 MSEL1 (in), L13 CONF_DONE (io), M13 nSTATUS (io)
part J pins: A2 VCCIO3 (power), A15 VCCIO4 (power), B1 VCCIO2 (power), B16 VCCIO5 (power), C7 VCCIO3 (power), C10 VCCIO4 (power), E7 VCCIO3 (power), E10 VCCIO4 (power), F9 VCCINT (power), F10 VCCINT (power), G3 VCCIO2 (power), G7 VCCINT (power), G9 VCCINT (power), G11 VCCINT (power), G14 VCCIO5 (power), H7 VCCINT (power), H10 VCCINT (power), H11 VCCINT (power), J6 VCCINT (power), J7 VCCINT (power), J10 VCCINT (power), K3 VCCIO1 (power), K6 VCCINT (power), K8 VCCINT (power), K10 VCCINT (power), K14 VCCIO6 (power), L7 VCCINT (power), L8 VCCINT (power), M7 VCCIO8 (power), M10 VCCIO7 (power), P7 VCCIO8 (power), P10 VCCIO7 (power), R1 VCCIO1 (power), R16 VCCIO6 (power), T2 VCCIO8 (power), T15 VCCIO7 (power)
part K pins: A1 GND (power), A16 GND (power), B2 GND (power), B15 GND (power), C8 GND (power), C9 GND (power), E8 GND (power), E9 GND (power), F7 GND (power), F8 GND (power), G6 GND (power), G8 GND (power), G10 GND (power), H3 GND (power), H6 GND (power), H8 GND (power), H9 GND (power), H14 GND (power), J3 GND (power), J8 GND (power), J9 GND (power), J11 GND (power), J14 GND (power), K7 GND (power), K9 GND (power), K11 GND (power), L9 GND (power), L10 GND (power), M8 GND (power), M9 GND (power), P8 GND (power), P9 GND (power), R2 GND (power), R15 GND (power), T1 GND (power), T16 GND (power)
part L pins: D5 GND_PLL3 (power), D12 GND_PLL2 (power), E5 VCCD_PLL3 (power), E6 GNDA_PLL3 (power), E11 GNDA_PLL2 (power), E12 VCCA_PLL2 (power), F5 GND_PLL3 (power), F6 VCCA_PLL3 (power), F11 VCCD_PLL2 (power), F12 GND_PLL2 (power), L5 GND_PLL1 (power), L6 VCCD_PLL1 (power), L11 VCCA_PLL4 (power), L12 GND_PLL4 (power), M5 VCCA_PLL1 (power), M6 GNDA_PLL1 (power), M11 GNDA_PLL4 (power), M12 VCCD_PLL4 (power), N5 GND_PLL1 (power), N12 GND_PLL4 (power)
part M pins: A8 CLK10, LVDSCLK5n INPUT (in), A9 CLK8, LVDSCLK4n INPUT (in), B8 CLK11, LVDSCLK5p INPUT (in), B9 CLK9, LVDSCLK4p INPUT (in), H1 CLK1, LVDSCLK0n INPUT (in), H2 CLK0, LVDSCLK0p INPUT (in), H15 CLK5, LVDSCLK2n INPUT (in), H16 CLK4, LVDSCLK2p INPUT (in), J1 CLK3, LVDSCLK1n INPUT (in), J2 CLK2, LVDSCLK1p INPUT (in), J15 CLK6, LVDSCLK3p INPUT (in), J16 CLK7, LVDSCLK3n INPUT (in), N9 CLK13, LVDSCLK6p INPUT (in), N10 CLK12, LVDSCLK6n INPUT (in), R9 CLK14, LVDSCLK7n INPUT (in), T9 CLK15, LVDSCLK7p INPUT (in)
part A text: BANK 1
part B text: BANK 2
part C text: BANK 3
part D text: BANK 4
part E text: BANK 5
part F text: BANK 6
part G text: BANK 7
part H text: BANK 8

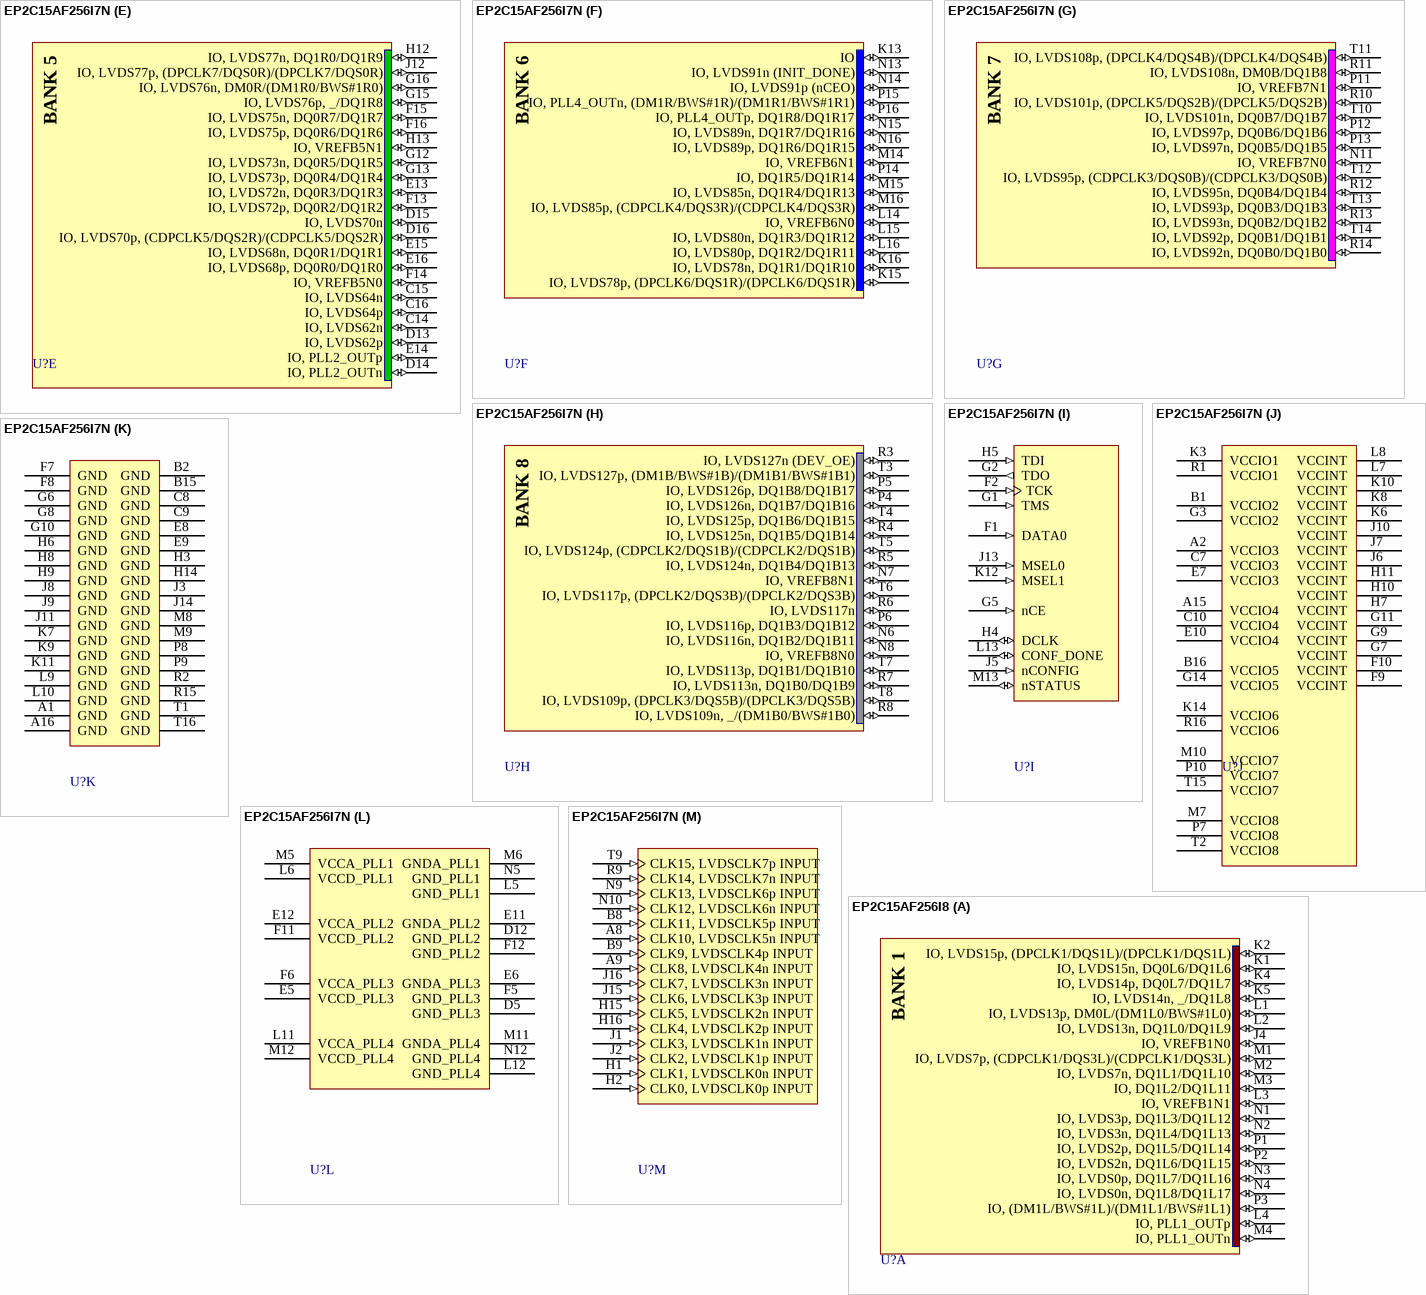
[diagram p77: symbols EP2C15AF256I7N to EP2C15AF256I8]

## EP2C15AF256I7N
designator U?
Cyclone II Family, 1.2V FPGA, 152 I/O Pins, 2 PLLs, 256-Pin FBGA, Speed Grade 7, Industrial Grade, Pb-Free; Note: DQS signal pins named according to DQ bus modes.  "/" separates each mode. ie. Modes x8/x9 / Modes x16/x18.; DatasheetVersion: ver3.3, Feb-2008; PackageVersion: ver16.0, Dec-2009; PackageReference: FBGA256-2; PackageDescription: 256-Ball FineLine Ball Grid Array (FBGA256) - Option 2 - Wire Bond; Code_JEDEC: MO-192-DAF-1; ComponentLink1Description: Manufacturer URL; ComponentLink1URL: http://www.altera.com/; ComponentLink2Description: Handbook; ComponentLink2URL: http://www.altera.com/literature/hb/cyc2/cyc2_cii5v1.pdf; ComponentLink3Description: Package Specification; ComponentLink3URL: http://www.altera.com/literature/ds/dspkg.pdf
footprint FBGA256-2 (BGA, 256-Leads, Body 17x17mm, Pitch 1mm)
part A pins: J4 IO, VREFB1N0 (io), K1 IO, LVDS15n, DQ0L6/DQ1L6 (io), K2 IO, LVDS15p, (DPCLK1/DQS1L)/(DPCLK1/DQS1L) (io), K4 IO, LVDS14p, DQ0L7/DQ1L7 (io), K5 IO, LVDS14n, _/DQ1L8 (io), L1 IO, LVDS13p, DM0L/(DM1L0/BWS#1L0) (io), L2 IO, LVDS13n, DQ1L0/DQ1L9 (io), L3 IO, VREFB1N1 (io), L4 IO, PLL1_OUTp (io), M1 IO, LVDS7p, (CDPCLK1/DQS3L)/(CDPCLK1/DQS3L) (io), M2 IO, LVDS7n, DQ1L1/DQ1L10 (io), M3 IO, DQ1L2/DQ1L11 (io), M4 IO, PLL1_OUTn (io), N1 IO, LVDS3p, DQ1L3/DQ1L12 (io), N2 IO, LVDS3n, DQ1L4/DQ1L13 (io), N3 IO, LVDS0p, DQ1L7/DQ1L16 (io), N4 IO, LVDS0n, DQ1L8/DQ1L17 (io), P1 IO, LVDS2p, DQ1L5/DQ1L14 (io), P2 IO, LVDS2n, DQ1L6/DQ1L15 (io), P3 IO, (DM1L/BWS#1L)/(DM1L1/BWS#1L1) (io)
part B pins: C1 IO, LVDS26p (CRC_ERROR) (io), C2 IO, LVDS26n (CLKUSR) (io), C3 IO, (ASDO) (io), D1 IO, LVDS20n, DQ0L2/DQ1L2 (io), D2 IO, LVDS20p, (CDPCLK0/DQS2L)/(CDPCLK0/DQS2L) (io), D3 IO, PLL3_OUTp, DQ0L0/DQ1L0 (io), D4 IO, PLL3_OUTn, DQ0L1/DQ1L1 (io), E1 IO, LVDS16p, (DPCLK0/DQS0L)/(DPCLK0/DQS0L) (io), E2 IO, LVDS16n, DQ0L5/DQ1L5 (io), E3 IO, LVDS19p, DQ0L3/DQ1L3 (io), E4 IO, LVDS19n, DQ0L4/DQ1L4 (io), F3 IO, VREFB2N0 (io), F4 IO, (nCSO) (io), G4 IO, VREFB2N1 (io)
part C pins: A3 IO, LVDS27p, (DM1T/BWS#1T)/(DM1T1/BWS#1T1) (io), A4 IO, LVDS28p, DQ1T8/DQ1T17 (io), A5 IO, LVDS30p, (CDPCLK7/DQS1T)/(CDPCLK7/DQS1T) (io), A6 IO, LVDS36p, (DPCLK11/DQS3T)/(DPCLK11/DQS3T) (io), A7 IO, LVDS44n, DQ1T0/DQ1T9 (io), B3 IO, LVDS27n (DEV_CLRn) (io), B4 IO, LVDS28n, DQ1T7/DQ1T16 (io), B5 IO, LVDS30n, DQ1T6/DQ1T15 (io), B6 IO, LVDS36n, DQ1T1/DQ1T10 (io), B7 IO, LVDS44p, (DPCLK10/DQS5T)/(DPCLK10/DQS5T) (io), C4 IO, DQ1T5/DQ1T14 (io), C5 IO, VREFB3N1 (io), C6 IO, LVDS32p, DQ1T4/DQ1T13 (io), D6 IO, LVDS32n, DQ1T3/DQ1T12 (io), D7 IO, DQ1T2/DQ1T11 (io), D8 IO, VREFB3N0 (io)
part D pins: A10 IO, LVDS52p, (DPCLK8/DQS2T)/(DPCLK8/DQS2T) (io), A11 IO, LVDS54p, DQ0T7/DQ1T7 (io), A12 IO, LVDS58p, (CDPCLK6/DQS0T)/(CDPCLK6/DQS0T) (io), A13 IO, LVDS59p, DQ0T4/DQ1T4 (io), A14 IO, LVDS61p, DQ0T0/DQ1T0 (io), B10 IO, LVDS52n, _/DQ1T8 (io), B11 IO, LVDS54n, DQ0T6/DQ1T6 (io), B12 IO, LVDS58n, DQ0T5/DQ1T5 (io), B13 IO, LVDS59n, DQ0T3/DQ1T3 (io), B14 IO, LVDS61n (io), C11 IO, VREFB4N0 (io), C12 IO, LVDS60p, DQ0T2/DQ1T2 (io), C13 IO, LVDS60n, DQ0T1/DQ1T1 (io), D9 IO, VREFB4N1 (io), D10 IO, LVDS45p, (DPCLK9/DQS4T)/(DPCLK9/DQS4T) (io), D11 IO, LVDS45n, DM0T/(DM1T0/BWS#1T0) (io)
part E pins: C14 IO, LVDS62n (io), C15 IO, LVDS64n (io), C16 IO, LVDS64p (io), D13 IO, LVDS62p (io), D14 IO, PLL2_OUTn (io), D15 IO, LVDS70n (io), D16 IO, LVDS70p, (CDPCLK5/DQS2R)/(CDPCLK5/DQS2R) (io), E13 IO, LVDS72n, DQ0R3/DQ1R3 (io), E14 IO, PLL2_OUTp (io), E15 IO, LVDS68n, DQ0R1/DQ1R1 (io), E16 IO, LVDS68p, DQ0R0/DQ1R0 (io), F13 IO, LVDS72p, DQ0R2/DQ1R2 (io), F14 IO, VREFB5N0 (io), F15 IO, LVDS75n, DQ0R7/DQ1R7 (io), F16 IO, LVDS75p, DQ0R6/DQ1R6 (io), G12 IO, LVDS73n, DQ0R5/DQ1R5 (io), G13 IO, LVDS73p, DQ0R4/DQ1R4 (io), G15 IO, LVDS76p, _/DQ1R8 (io), G16 IO, LVDS76n, DM0R/(DM1R0/BWS#1R0) (io), H12 IO, LVDS77n, DQ1R0/DQ1R9 (io), H13 IO, VREFB5N1 (io), J12 IO, LVDS77p, (DPCLK7/DQS0R)/(DPCLK7/DQS0R) (io)
part F pins: K13 IO (io), K15 IO, LVDS78p, (DPCLK6/DQS1R)/(DPCLK6/DQS1R) (io), K16 IO, LVDS78n, DQ1R1/DQ1R10 (io), L14 IO, VREFB6N0 (io), L15 IO, LVDS80n, DQ1R3/DQ1R12 (io), L16 IO, LVDS80p, DQ1R2/DQ1R11 (io), M14 IO, VREFB6N1 (io), M15 IO, LVDS85n, DQ1R4/DQ1R13 (io), M16 IO, LVDS85p, (CDPCLK4/DQS3R)/(CDPCLK4/DQS3R) (io), N13 IO, LVDS91n (INIT_DONE) (io), N14 IO, LVDS91p (nCEO) (io), N15 IO, LVDS89n, DQ1R7/DQ1R16 (io), N16 IO, LVDS89p, DQ1R6/DQ1R15 (io), P14 IO, DQ1R5/DQ1R14 (io), P15 IO, PLL4_OUTn, (DM1R/BWS#1R)/(DM1R1/BWS#1R1) (io), P16 IO, PLL4_OUTp, DQ1R8/DQ1R17 (io)
part G pins: N11 IO, VREFB7N0 (io), P11 IO, VREFB7N1 (io), P12 IO, LVDS97p, DQ0B6/DQ1B6 (io), P13 IO, LVDS97n, DQ0B5/DQ1B5 (io), R10 IO, LVDS101p, (DPCLK5/DQS2B)/(DPCLK5/DQS2B) (io), R11 IO, LVDS108n, DM0B/DQ1B8 (io), R12 IO, LVDS95n, DQ0B4/DQ1B4 (io), R13 IO, LVDS93n, DQ0B2/DQ1B2 (io), R14 IO, LVDS92n, DQ0B0/DQ1B0 (io), T10 IO, LVDS101n, DQ0B7/DQ1B7 (io), T11 IO, LVDS108p, (DPCLK4/DQS4B)/(DPCLK4/DQS4B) (io), T12 IO, LVDS95p, (CDPCLK3/DQS0B)/(CDPCLK3/DQS0B) (io), T13 IO, LVDS93p, DQ0B3/DQ1B3 (io), T14 IO, LVDS92p, DQ0B1/DQ1B1 (io)
part H pins: N6 IO, LVDS116n, DQ1B2/DQ1B11 (io), N7 IO, VREFB8N1 (io), N8 IO, VREFB8N0 (io), P4 IO, LVDS126n, DQ1B7/DQ1B16 (io), P5 IO, LVDS126p, DQ1B8/DQ1B17 (io), P6 IO, LVDS116p, DQ1B3/DQ1B12 (io), R3 IO, LVDS127n (DEV_OE) (io), R4 IO, LVDS125n, DQ1B5/DQ1B14 (io), R5 IO, LVDS124n, DQ1B4/DQ1B13 (io), R6 IO, LVDS117n (io), R7 IO, LVDS113n, DQ1B0/DQ1B9 (io), R8 IO, LVDS109n, _/(DM1B0/BWS#1B0) (io), T3 IO, LVDS127p, (DM1B/BWS#1B)/(DM1B1/BWS#1B1) (io), T4 IO, LVDS125p, DQ1B6/DQ1B15 (io), T5 IO, LVDS124p, (CDPCLK2/DQS1B)/(CDPCLK2/DQS1B) (io), T6 IO, LVDS117p, (DPCLK2/DQS3B)/(DPCLK2/DQS3B) (io), T7 IO, LVDS113p, DQ1B1/DQ1B10 (io), T8 IO, LVDS109p, (DPCLK3/DQS5B)/(DPCLK3/DQS5B) (io)
part I pins: F1 DATA0 (in), F2 TCK (in), G1 TMS (in), G2 TDO (out), G5 nCE (in), H4 DCLK (io), H5 TDI (in), J5 nCONFIG (in), J13 MSEL0 (in), K12 MSEL1 (in), L13 CONF_DONE (io), M13 nSTATUS (io)
part J pins: A2 VCCIO3 (power), A15 VCCIO4 (power), B1 VCCIO2 (power), B16 VCCIO5 (power), C7 VCCIO3 (power), C10 VCCIO4 (power), E7 VCCIO3 (power), E10 VCCIO4 (power), F9 VCCINT (power), F10 VCCINT (power), G3 VCCIO2 (power), G7 VCCINT (power), G9 VCCINT (power), G11 VCCINT (power), G14 VCCIO5 (power), H7 VCCINT (power), H10 VCCINT (power), H11 VCCINT (power), J6 VCCINT (power), J7 VCCINT (power), J10 VCCINT (power), K3 VCCIO1 (power), K6 VCCINT (power), K8 VCCINT (power), K10 VCCINT (power), K14 VCCIO6 (power), L7 VCCINT (power), L8 VCCINT (power), M7 VCCIO8 (power), M10 VCCIO7 (power), P7 VCCIO8 (power), P10 VCCIO7 (power), R1 VCCIO1 (power), R16 VCCIO6 (power), T2 VCCIO8 (power), T15 VCCIO7 (power)
part K pins: A1 GND (power), A16 GND (power), B2 GND (power), B15 GND (power), C8 GND (power), C9 GND (power), E8 GND (power), E9 GND (power), F7 GND (power), F8 GND (power), G6 GND (power), G8 GND (power), G10 GND (power), H3 GND (power), H6 GND (power), H8 GND (power), H9 GND (power), H14 GND (power), J3 GND (power), J8 GND (power), J9 GND (power), J11 GND (power), J14 GND (power), K7 GND (power), K9 GND (power), K11 GND (power), L9 GND (power), L10 GND (power), M8 GND (power), M9 GND (power), P8 GND (power), P9 GND (power), R2 GND (power), R15 GND (power), T1 GND (power), T16 GND (power)
part L pins: D5 GND_PLL3 (power), D12 GND_PLL2 (power), E5 VCCD_PLL3 (power), E6 GNDA_PLL3 (power), E11 GNDA_PLL2 (power), E12 VCCA_PLL2 (power), F5 GND_PLL3 (power), F6 VCCA_PLL3 (power), F11 VCCD_PLL2 (power), F12 GND_PLL2 (power), L5 GND_PLL1 (power), L6 VCCD_PLL1 (power), L11 VCCA_PLL4 (power), L12 GND_PLL4 (power), M5 VCCA_PLL1 (power), M6 GNDA_PLL1 (power), M11 GNDA_PLL4 (power), M12 VCCD_PLL4 (power), N5 GND_PLL1 (power), N12 GND_PLL4 (power)
part M pins: A8 CLK10, LVDSCLK5n INPUT (in), A9 CLK8, LVDSCLK4n INPUT (in), B8 CLK11, LVDSCLK5p INPUT (in), B9 CLK9, LVDSCLK4p INPUT (in), H1 CLK1, LVDSCLK0n INPUT (in), H2 CLK0, LVDSCLK0p INPUT (in), H15 CLK5, LVDSCLK2n INPUT (in), H16 CLK4, LVDSCLK2p INPUT (in), J1 CLK3, LVDSCLK1n INPUT (in), J2 CLK2, LVDSCLK1p INPUT (in), J15 CLK6, LVDSCLK3p INPUT (in), J16 CLK7, LVDSCLK3n INPUT (in), N9 CLK13, LVDSCLK6p INPUT (in), N10 CLK12, LVDSCLK6n INPUT (in), R9 CLK14, LVDSCLK7n INPUT (in), T9 CLK15, LVDSCLK7p INPUT (in)
part A text: BANK 1
part B text: BANK 2
part C text: BANK 3
part D text: BANK 4
part E text: BANK 5
part F text: BANK 6
part G text: BANK 7
part H text: BANK 8

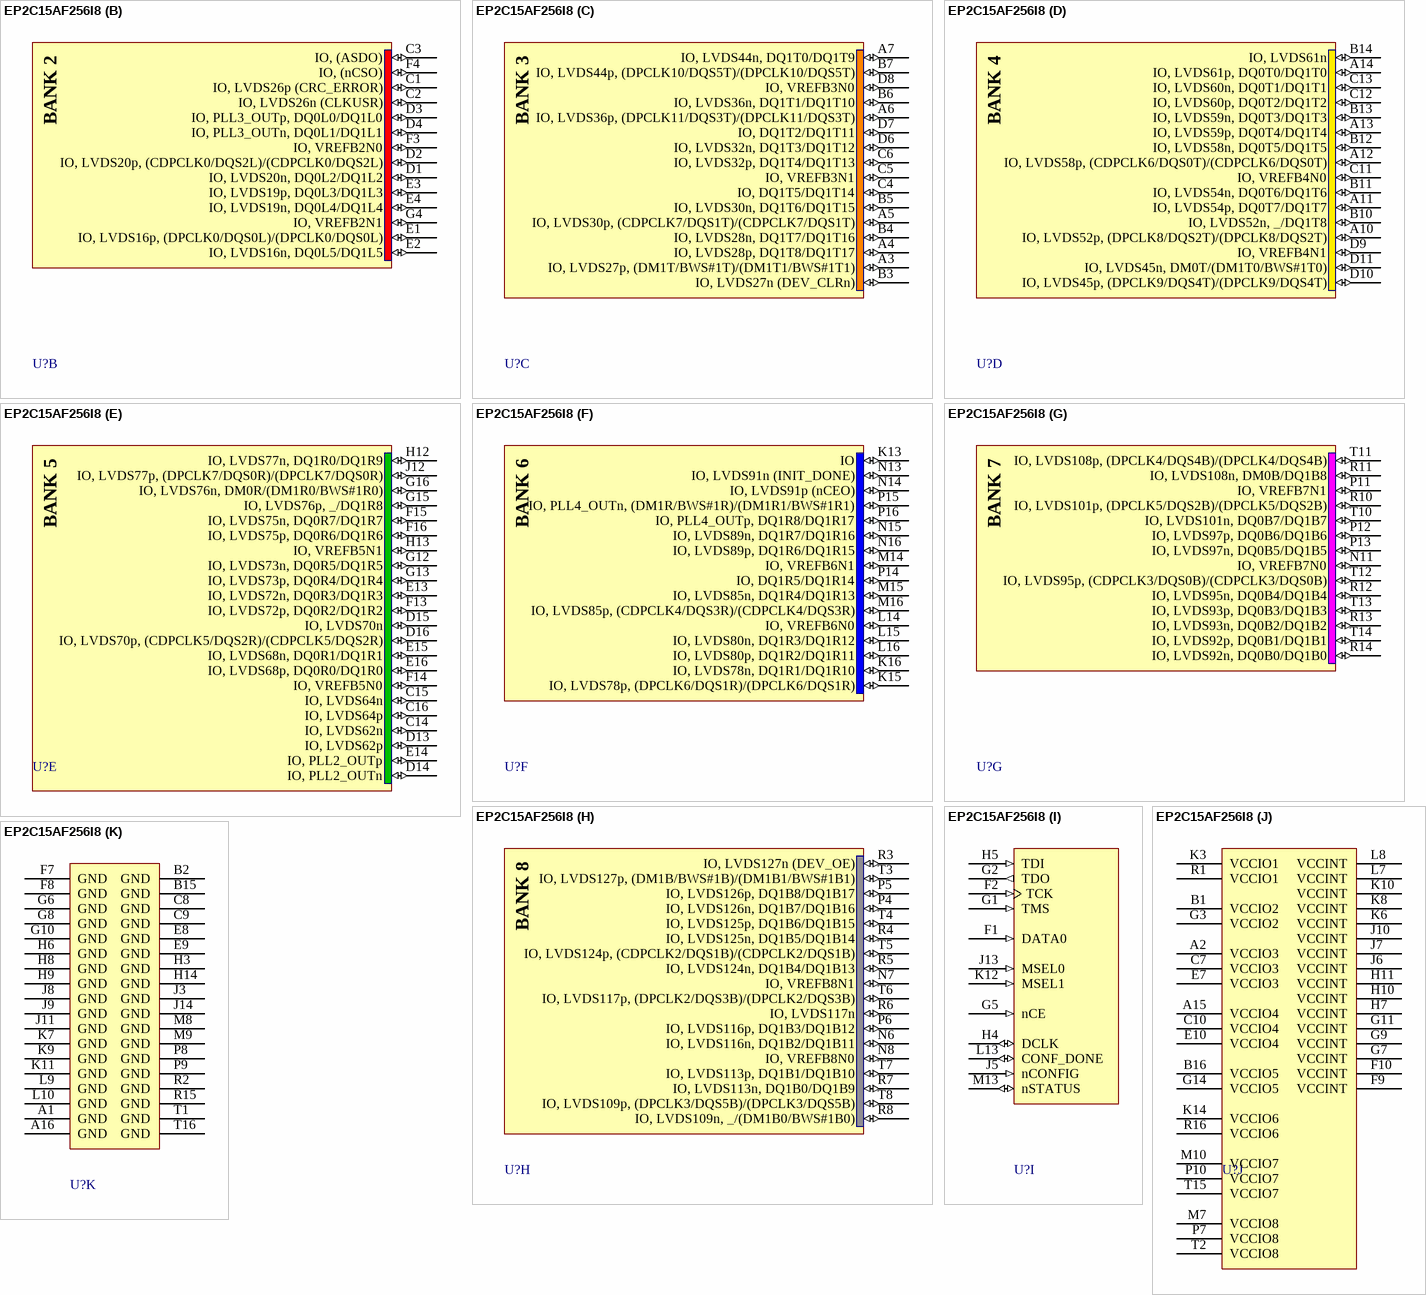
[diagram p78: symbol EP2C15AF256I8]

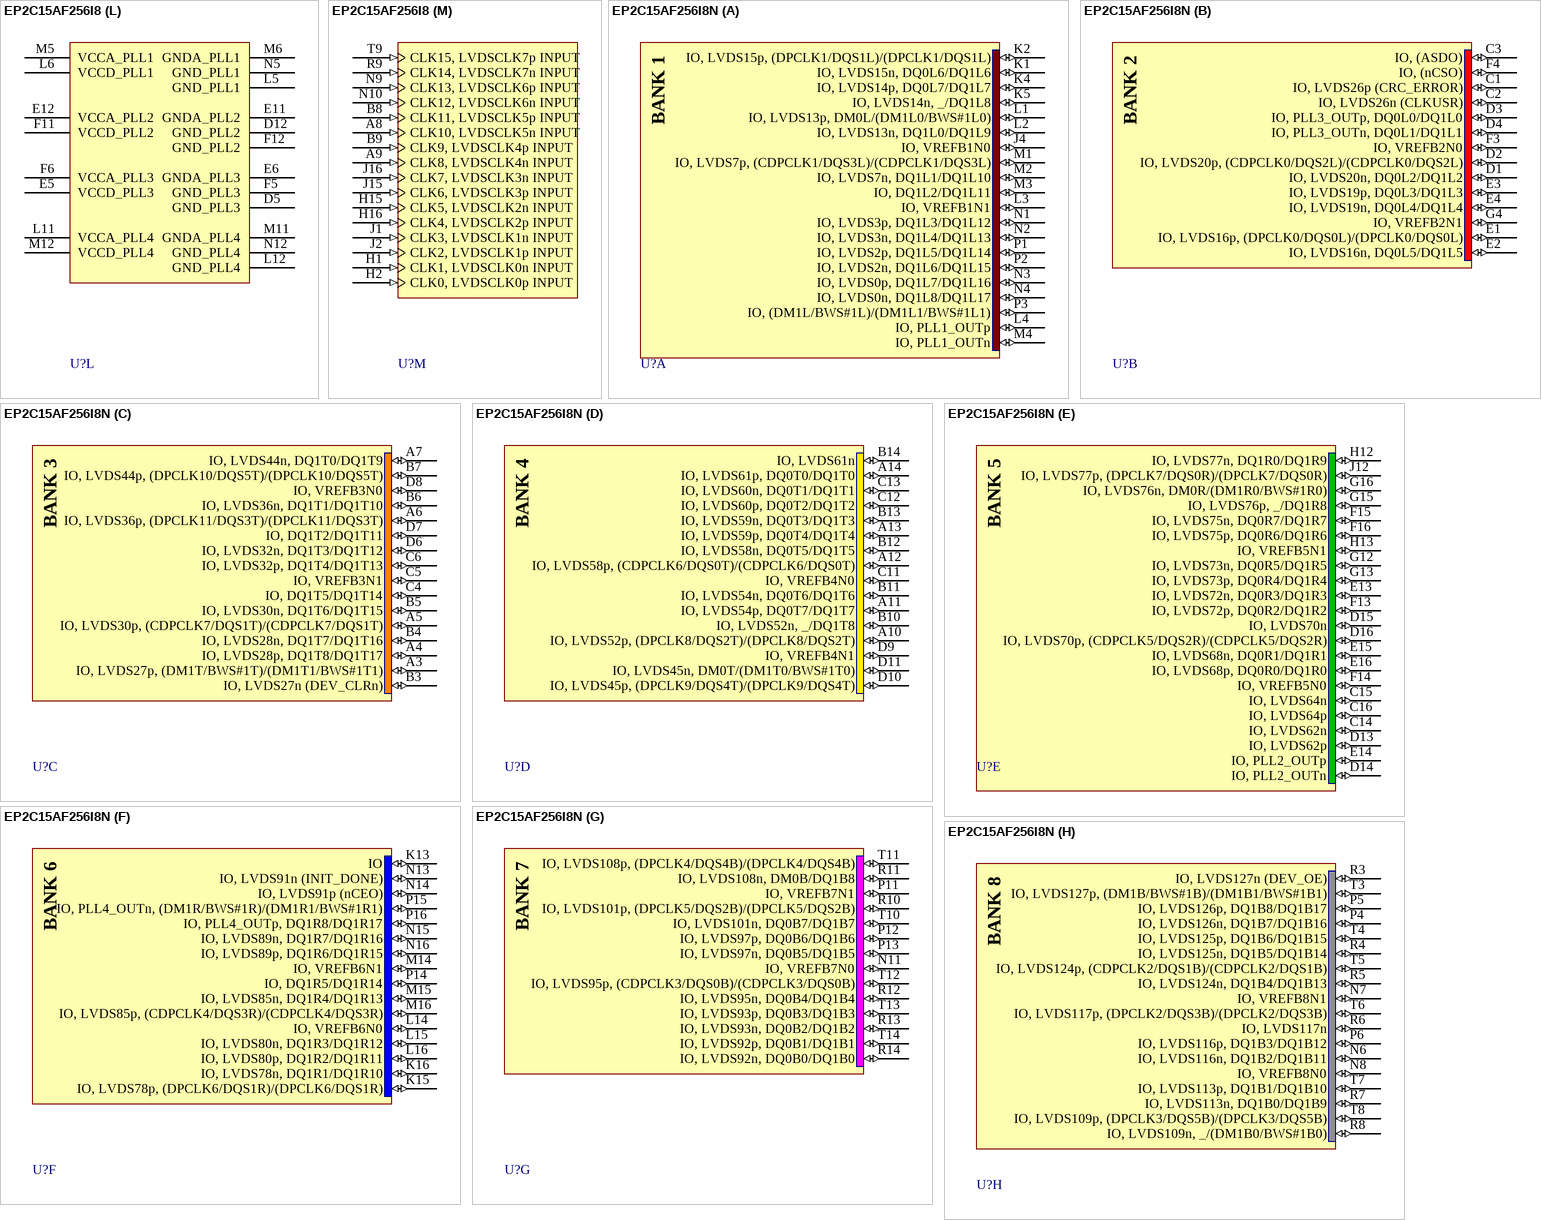
[diagram p79: symbols EP2C15AF256I8 to EP2C15AF256I8N]

## EP2C15AF256I8
designator U?
Cyclone II Family, 1.2V FPGA, 152 I/O Pins, 2 PLLs, 256-Pin FBGA, Speed Grade 8, Industrial Grade; Note: DQS signal pins named according to DQ bus modes.  "/" separates each mode. ie. Modes x8/x9 / Modes x16/x18.; DatasheetVersion: ver3.3, Feb-2008; PackageVersion: ver16.0, Dec-2009; PackageReference: FBGA256-2; PackageDescription: 256-Ball FineLine Ball Grid Array (FBGA256) - Option 2 - Wire Bond; Code_JEDEC: MO-192-DAF-1; ComponentLink1Description: Manufacturer URL; ComponentLink1URL: http://www.altera.com/; ComponentLink2Description: Handbook; ComponentLink2URL: http://www.altera.com/literature/hb/cyc2/cyc2_cii5v1.pdf; ComponentLink3Description: Package Specification; ComponentLink3URL: http://www.altera.com/literature/ds/dspkg.pdf
footprint FBGA256-2 (BGA, 256-Leads, Body 17x17mm, Pitch 1mm)
part A pins: J4 IO, VREFB1N0 (io), K1 IO, LVDS15n, DQ0L6/DQ1L6 (io), K2 IO, LVDS15p, (DPCLK1/DQS1L)/(DPCLK1/DQS1L) (io), K4 IO, LVDS14p, DQ0L7/DQ1L7 (io), K5 IO, LVDS14n, _/DQ1L8 (io), L1 IO, LVDS13p, DM0L/(DM1L0/BWS#1L0) (io), L2 IO, LVDS13n, DQ1L0/DQ1L9 (io), L3 IO, VREFB1N1 (io), L4 IO, PLL1_OUTp (io), M1 IO, LVDS7p, (CDPCLK1/DQS3L)/(CDPCLK1/DQS3L) (io), M2 IO, LVDS7n, DQ1L1/DQ1L10 (io), M3 IO, DQ1L2/DQ1L11 (io), M4 IO, PLL1_OUTn (io), N1 IO, LVDS3p, DQ1L3/DQ1L12 (io), N2 IO, LVDS3n, DQ1L4/DQ1L13 (io), N3 IO, LVDS0p, DQ1L7/DQ1L16 (io), N4 IO, LVDS0n, DQ1L8/DQ1L17 (io), P1 IO, LVDS2p, DQ1L5/DQ1L14 (io), P2 IO, LVDS2n, DQ1L6/DQ1L15 (io), P3 IO, (DM1L/BWS#1L)/(DM1L1/BWS#1L1) (io)
part B pins: C1 IO, LVDS26p (CRC_ERROR) (io), C2 IO, LVDS26n (CLKUSR) (io), C3 IO, (ASDO) (io), D1 IO, LVDS20n, DQ0L2/DQ1L2 (io), D2 IO, LVDS20p, (CDPCLK0/DQS2L)/(CDPCLK0/DQS2L) (io), D3 IO, PLL3_OUTp, DQ0L0/DQ1L0 (io), D4 IO, PLL3_OUTn, DQ0L1/DQ1L1 (io), E1 IO, LVDS16p, (DPCLK0/DQS0L)/(DPCLK0/DQS0L) (io), E2 IO, LVDS16n, DQ0L5/DQ1L5 (io), E3 IO, LVDS19p, DQ0L3/DQ1L3 (io), E4 IO, LVDS19n, DQ0L4/DQ1L4 (io), F3 IO, VREFB2N0 (io), F4 IO, (nCSO) (io), G4 IO, VREFB2N1 (io)
part C pins: A3 IO, LVDS27p, (DM1T/BWS#1T)/(DM1T1/BWS#1T1) (io), A4 IO, LVDS28p, DQ1T8/DQ1T17 (io), A5 IO, LVDS30p, (CDPCLK7/DQS1T)/(CDPCLK7/DQS1T) (io), A6 IO, LVDS36p, (DPCLK11/DQS3T)/(DPCLK11/DQS3T) (io), A7 IO, LVDS44n, DQ1T0/DQ1T9 (io), B3 IO, LVDS27n (DEV_CLRn) (io), B4 IO, LVDS28n, DQ1T7/DQ1T16 (io), B5 IO, LVDS30n, DQ1T6/DQ1T15 (io), B6 IO, LVDS36n, DQ1T1/DQ1T10 (io), B7 IO, LVDS44p, (DPCLK10/DQS5T)/(DPCLK10/DQS5T) (io), C4 IO, DQ1T5/DQ1T14 (io), C5 IO, VREFB3N1 (io), C6 IO, LVDS32p, DQ1T4/DQ1T13 (io), D6 IO, LVDS32n, DQ1T3/DQ1T12 (io), D7 IO, DQ1T2/DQ1T11 (io), D8 IO, VREFB3N0 (io)
part D pins: A10 IO, LVDS52p, (DPCLK8/DQS2T)/(DPCLK8/DQS2T) (io), A11 IO, LVDS54p, DQ0T7/DQ1T7 (io), A12 IO, LVDS58p, (CDPCLK6/DQS0T)/(CDPCLK6/DQS0T) (io), A13 IO, LVDS59p, DQ0T4/DQ1T4 (io), A14 IO, LVDS61p, DQ0T0/DQ1T0 (io), B10 IO, LVDS52n, _/DQ1T8 (io), B11 IO, LVDS54n, DQ0T6/DQ1T6 (io), B12 IO, LVDS58n, DQ0T5/DQ1T5 (io), B13 IO, LVDS59n, DQ0T3/DQ1T3 (io), B14 IO, LVDS61n (io), C11 IO, VREFB4N0 (io), C12 IO, LVDS60p, DQ0T2/DQ1T2 (io), C13 IO, LVDS60n, DQ0T1/DQ1T1 (io), D9 IO, VREFB4N1 (io), D10 IO, LVDS45p, (DPCLK9/DQS4T)/(DPCLK9/DQS4T) (io), D11 IO, LVDS45n, DM0T/(DM1T0/BWS#1T0) (io)
part E pins: C14 IO, LVDS62n (io), C15 IO, LVDS64n (io), C16 IO, LVDS64p (io), D13 IO, LVDS62p (io), D14 IO, PLL2_OUTn (io), D15 IO, LVDS70n (io), D16 IO, LVDS70p, (CDPCLK5/DQS2R)/(CDPCLK5/DQS2R) (io), E13 IO, LVDS72n, DQ0R3/DQ1R3 (io), E14 IO, PLL2_OUTp (io), E15 IO, LVDS68n, DQ0R1/DQ1R1 (io), E16 IO, LVDS68p, DQ0R0/DQ1R0 (io), F13 IO, LVDS72p, DQ0R2/DQ1R2 (io), F14 IO, VREFB5N0 (io), F15 IO, LVDS75n, DQ0R7/DQ1R7 (io), F16 IO, LVDS75p, DQ0R6/DQ1R6 (io), G12 IO, LVDS73n, DQ0R5/DQ1R5 (io), G13 IO, LVDS73p, DQ0R4/DQ1R4 (io), G15 IO, LVDS76p, _/DQ1R8 (io), G16 IO, LVDS76n, DM0R/(DM1R0/BWS#1R0) (io), H12 IO, LVDS77n, DQ1R0/DQ1R9 (io), H13 IO, VREFB5N1 (io), J12 IO, LVDS77p, (DPCLK7/DQS0R)/(DPCLK7/DQS0R) (io)
part F pins: K13 IO (io), K15 IO, LVDS78p, (DPCLK6/DQS1R)/(DPCLK6/DQS1R) (io), K16 IO, LVDS78n, DQ1R1/DQ1R10 (io), L14 IO, VREFB6N0 (io), L15 IO, LVDS80n, DQ1R3/DQ1R12 (io), L16 IO, LVDS80p, DQ1R2/DQ1R11 (io), M14 IO, VREFB6N1 (io), M15 IO, LVDS85n, DQ1R4/DQ1R13 (io), M16 IO, LVDS85p, (CDPCLK4/DQS3R)/(CDPCLK4/DQS3R) (io), N13 IO, LVDS91n (INIT_DONE) (io), N14 IO, LVDS91p (nCEO) (io), N15 IO, LVDS89n, DQ1R7/DQ1R16 (io), N16 IO, LVDS89p, DQ1R6/DQ1R15 (io), P14 IO, DQ1R5/DQ1R14 (io), P15 IO, PLL4_OUTn, (DM1R/BWS#1R)/(DM1R1/BWS#1R1) (io), P16 IO, PLL4_OUTp, DQ1R8/DQ1R17 (io)
part G pins: N11 IO, VREFB7N0 (io), P11 IO, VREFB7N1 (io), P12 IO, LVDS97p, DQ0B6/DQ1B6 (io), P13 IO, LVDS97n, DQ0B5/DQ1B5 (io), R10 IO, LVDS101p, (DPCLK5/DQS2B)/(DPCLK5/DQS2B) (io), R11 IO, LVDS108n, DM0B/DQ1B8 (io), R12 IO, LVDS95n, DQ0B4/DQ1B4 (io), R13 IO, LVDS93n, DQ0B2/DQ1B2 (io), R14 IO, LVDS92n, DQ0B0/DQ1B0 (io), T10 IO, LVDS101n, DQ0B7/DQ1B7 (io), T11 IO, LVDS108p, (DPCLK4/DQS4B)/(DPCLK4/DQS4B) (io), T12 IO, LVDS95p, (CDPCLK3/DQS0B)/(CDPCLK3/DQS0B) (io), T13 IO, LVDS93p, DQ0B3/DQ1B3 (io), T14 IO, LVDS92p, DQ0B1/DQ1B1 (io)
part H pins: N6 IO, LVDS116n, DQ1B2/DQ1B11 (io), N7 IO, VREFB8N1 (io), N8 IO, VREFB8N0 (io), P4 IO, LVDS126n, DQ1B7/DQ1B16 (io), P5 IO, LVDS126p, DQ1B8/DQ1B17 (io), P6 IO, LVDS116p, DQ1B3/DQ1B12 (io), R3 IO, LVDS127n (DEV_OE) (io), R4 IO, LVDS125n, DQ1B5/DQ1B14 (io), R5 IO, LVDS124n, DQ1B4/DQ1B13 (io), R6 IO, LVDS117n (io), R7 IO, LVDS113n, DQ1B0/DQ1B9 (io), R8 IO, LVDS109n, _/(DM1B0/BWS#1B0) (io), T3 IO, LVDS127p, (DM1B/BWS#1B)/(DM1B1/BWS#1B1) (io), T4 IO, LVDS125p, DQ1B6/DQ1B15 (io), T5 IO, LVDS124p, (CDPCLK2/DQS1B)/(CDPCLK2/DQS1B) (io), T6 IO, LVDS117p, (DPCLK2/DQS3B)/(DPCLK2/DQS3B) (io), T7 IO, LVDS113p, DQ1B1/DQ1B10 (io), T8 IO, LVDS109p, (DPCLK3/DQS5B)/(DPCLK3/DQS5B) (io)
part I pins: F1 DATA0 (in), F2 TCK (in), G1 TMS (in), G2 TDO (out), G5 nCE (in), H4 DCLK (io), H5 TDI (in), J5 nCONFIG (in), J13 MSEL0 (in), K12 MSEL1 (in), L13 CONF_DONE (io), M13 nSTATUS (io)
part J pins: A2 VCCIO3 (power), A15 VCCIO4 (power), B1 VCCIO2 (power), B16 VCCIO5 (power), C7 VCCIO3 (power), C10 VCCIO4 (power), E7 VCCIO3 (power), E10 VCCIO4 (power), F9 VCCINT (power), F10 VCCINT (power), G3 VCCIO2 (power), G7 VCCINT (power), G9 VCCINT (power), G11 VCCINT (power), G14 VCCIO5 (power), H7 VCCINT (power), H10 VCCINT (power), H11 VCCINT (power), J6 VCCINT (power), J7 VCCINT (power), J10 VCCINT (power), K3 VCCIO1 (power), K6 VCCINT (power), K8 VCCINT (power), K10 VCCINT (power), K14 VCCIO6 (power), L7 VCCINT (power), L8 VCCINT (power), M7 VCCIO8 (power), M10 VCCIO7 (power), P7 VCCIO8 (power), P10 VCCIO7 (power), R1 VCCIO1 (power), R16 VCCIO6 (power), T2 VCCIO8 (power), T15 VCCIO7 (power)
part K pins: A1 GND (power), A16 GND (power), B2 GND (power), B15 GND (power), C8 GND (power), C9 GND (power), E8 GND (power), E9 GND (power), F7 GND (power), F8 GND (power), G6 GND (power), G8 GND (power), G10 GND (power), H3 GND (power), H6 GND (power), H8 GND (power), H9 GND (power), H14 GND (power), J3 GND (power), J8 GND (power), J9 GND (power), J11 GND (power), J14 GND (power), K7 GND (power), K9 GND (power), K11 GND (power), L9 GND (power), L10 GND (power), M8 GND (power), M9 GND (power), P8 GND (power), P9 GND (power), R2 GND (power), R15 GND (power), T1 GND (power), T16 GND (power)
part L pins: D5 GND_PLL3 (power), D12 GND_PLL2 (power), E5 VCCD_PLL3 (power), E6 GNDA_PLL3 (power), E11 GNDA_PLL2 (power), E12 VCCA_PLL2 (power), F5 GND_PLL3 (power), F6 VCCA_PLL3 (power), F11 VCCD_PLL2 (power), F12 GND_PLL2 (power), L5 GND_PLL1 (power), L6 VCCD_PLL1 (power), L11 VCCA_PLL4 (power), L12 GND_PLL4 (power), M5 VCCA_PLL1 (power), M6 GNDA_PLL1 (power), M11 GNDA_PLL4 (power), M12 VCCD_PLL4 (power), N5 GND_PLL1 (power), N12 GND_PLL4 (power)
part M pins: A8 CLK10, LVDSCLK5n INPUT (in), A9 CLK8, LVDSCLK4n INPUT (in), B8 CLK11, LVDSCLK5p INPUT (in), B9 CLK9, LVDSCLK4p INPUT (in), H1 CLK1, LVDSCLK0n INPUT (in), H2 CLK0, LVDSCLK0p INPUT (in), H15 CLK5, LVDSCLK2n INPUT (in), H16 CLK4, LVDSCLK2p INPUT (in), J1 CLK3, LVDSCLK1n INPUT (in), J2 CLK2, LVDSCLK1p INPUT (in), J15 CLK6, LVDSCLK3p INPUT (in), J16 CLK7, LVDSCLK3n INPUT (in), N9 CLK13, LVDSCLK6p INPUT (in), N10 CLK12, LVDSCLK6n INPUT (in), R9 CLK14, LVDSCLK7n INPUT (in), T9 CLK15, LVDSCLK7p INPUT (in)
part A text: BANK 1
part B text: BANK 2
part C text: BANK 3
part D text: BANK 4
part E text: BANK 5
part F text: BANK 6
part G text: BANK 7
part H text: BANK 8

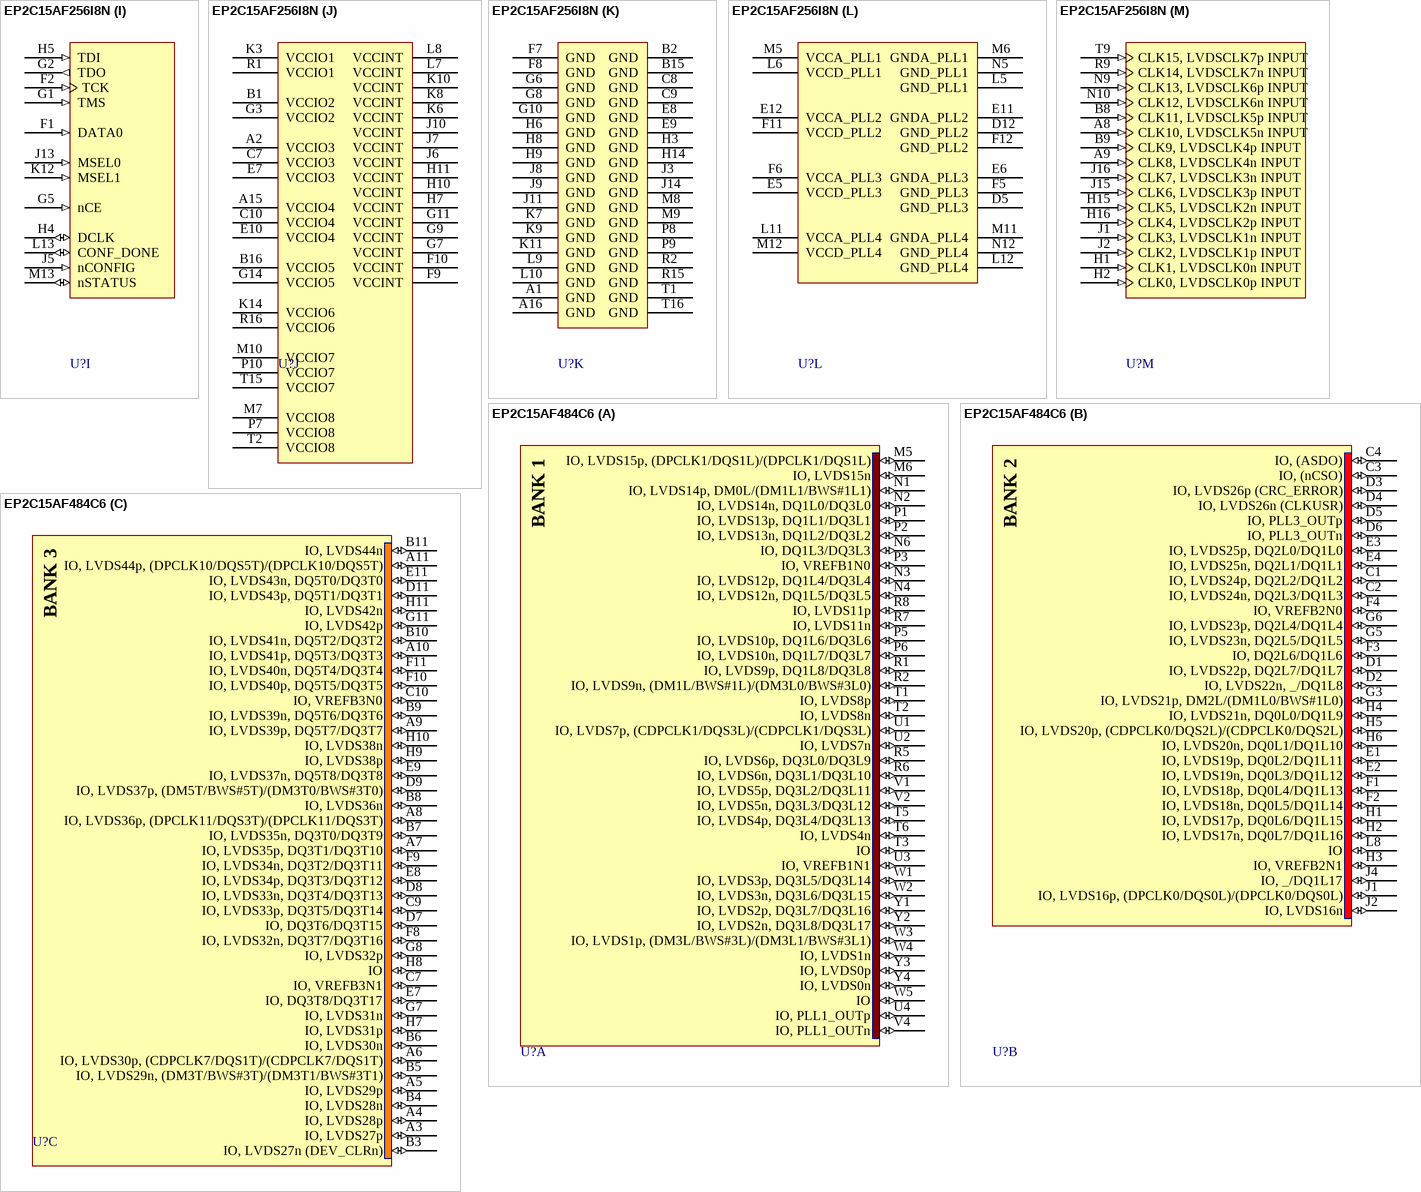
[diagram p80: symbols EP2C15AF256I8N to EP2C15AF484C6]

## EP2C15AF256I8N
designator U?
Cyclone II Family, 1.2V FPGA, 152 I/O Pins, 2 PLLs, 256-Pin FBGA, Speed Grade 8, Industrial Grade, Pb-Free; Note: DQS signal pins named according to DQ bus modes.  "/" separates each mode. ie. Modes x8/x9 / Modes x16/x18.; DatasheetVersion: ver3.3, Feb-2008; PackageVersion: ver16.0, Dec-2009; PackageReference: FBGA256-2; PackageDescription: 256-Ball FineLine Ball Grid Array (FBGA256) - Option 2 - Wire Bond; Code_JEDEC: MO-192-DAF-1; ComponentLink1Description: Manufacturer URL; ComponentLink1URL: http://www.altera.com/; ComponentLink2Description: Handbook; ComponentLink2URL: http://www.altera.com/literature/hb/cyc2/cyc2_cii5v1.pdf; ComponentLink3Description: Package Specification; ComponentLink3URL: http://www.altera.com/literature/ds/dspkg.pdf
footprint FBGA256-2 (BGA, 256-Leads, Body 17x17mm, Pitch 1mm)
part A pins: J4 IO, VREFB1N0 (io), K1 IO, LVDS15n, DQ0L6/DQ1L6 (io), K2 IO, LVDS15p, (DPCLK1/DQS1L)/(DPCLK1/DQS1L) (io), K4 IO, LVDS14p, DQ0L7/DQ1L7 (io), K5 IO, LVDS14n, _/DQ1L8 (io), L1 IO, LVDS13p, DM0L/(DM1L0/BWS#1L0) (io), L2 IO, LVDS13n, DQ1L0/DQ1L9 (io), L3 IO, VREFB1N1 (io), L4 IO, PLL1_OUTp (io), M1 IO, LVDS7p, (CDPCLK1/DQS3L)/(CDPCLK1/DQS3L) (io), M2 IO, LVDS7n, DQ1L1/DQ1L10 (io), M3 IO, DQ1L2/DQ1L11 (io), M4 IO, PLL1_OUTn (io), N1 IO, LVDS3p, DQ1L3/DQ1L12 (io), N2 IO, LVDS3n, DQ1L4/DQ1L13 (io), N3 IO, LVDS0p, DQ1L7/DQ1L16 (io), N4 IO, LVDS0n, DQ1L8/DQ1L17 (io), P1 IO, LVDS2p, DQ1L5/DQ1L14 (io), P2 IO, LVDS2n, DQ1L6/DQ1L15 (io), P3 IO, (DM1L/BWS#1L)/(DM1L1/BWS#1L1) (io)
part B pins: C1 IO, LVDS26p (CRC_ERROR) (io), C2 IO, LVDS26n (CLKUSR) (io), C3 IO, (ASDO) (io), D1 IO, LVDS20n, DQ0L2/DQ1L2 (io), D2 IO, LVDS20p, (CDPCLK0/DQS2L)/(CDPCLK0/DQS2L) (io), D3 IO, PLL3_OUTp, DQ0L0/DQ1L0 (io), D4 IO, PLL3_OUTn, DQ0L1/DQ1L1 (io), E1 IO, LVDS16p, (DPCLK0/DQS0L)/(DPCLK0/DQS0L) (io), E2 IO, LVDS16n, DQ0L5/DQ1L5 (io), E3 IO, LVDS19p, DQ0L3/DQ1L3 (io), E4 IO, LVDS19n, DQ0L4/DQ1L4 (io), F3 IO, VREFB2N0 (io), F4 IO, (nCSO) (io), G4 IO, VREFB2N1 (io)
part C pins: A3 IO, LVDS27p, (DM1T/BWS#1T)/(DM1T1/BWS#1T1) (io), A4 IO, LVDS28p, DQ1T8/DQ1T17 (io), A5 IO, LVDS30p, (CDPCLK7/DQS1T)/(CDPCLK7/DQS1T) (io), A6 IO, LVDS36p, (DPCLK11/DQS3T)/(DPCLK11/DQS3T) (io), A7 IO, LVDS44n, DQ1T0/DQ1T9 (io), B3 IO, LVDS27n (DEV_CLRn) (io), B4 IO, LVDS28n, DQ1T7/DQ1T16 (io), B5 IO, LVDS30n, DQ1T6/DQ1T15 (io), B6 IO, LVDS36n, DQ1T1/DQ1T10 (io), B7 IO, LVDS44p, (DPCLK10/DQS5T)/(DPCLK10/DQS5T) (io), C4 IO, DQ1T5/DQ1T14 (io), C5 IO, VREFB3N1 (io), C6 IO, LVDS32p, DQ1T4/DQ1T13 (io), D6 IO, LVDS32n, DQ1T3/DQ1T12 (io), D7 IO, DQ1T2/DQ1T11 (io), D8 IO, VREFB3N0 (io)
part D pins: A10 IO, LVDS52p, (DPCLK8/DQS2T)/(DPCLK8/DQS2T) (io), A11 IO, LVDS54p, DQ0T7/DQ1T7 (io), A12 IO, LVDS58p, (CDPCLK6/DQS0T)/(CDPCLK6/DQS0T) (io), A13 IO, LVDS59p, DQ0T4/DQ1T4 (io), A14 IO, LVDS61p, DQ0T0/DQ1T0 (io), B10 IO, LVDS52n, _/DQ1T8 (io), B11 IO, LVDS54n, DQ0T6/DQ1T6 (io), B12 IO, LVDS58n, DQ0T5/DQ1T5 (io), B13 IO, LVDS59n, DQ0T3/DQ1T3 (io), B14 IO, LVDS61n (io), C11 IO, VREFB4N0 (io), C12 IO, LVDS60p, DQ0T2/DQ1T2 (io), C13 IO, LVDS60n, DQ0T1/DQ1T1 (io), D9 IO, VREFB4N1 (io), D10 IO, LVDS45p, (DPCLK9/DQS4T)/(DPCLK9/DQS4T) (io), D11 IO, LVDS45n, DM0T/(DM1T0/BWS#1T0) (io)
part E pins: C14 IO, LVDS62n (io), C15 IO, LVDS64n (io), C16 IO, LVDS64p (io), D13 IO, LVDS62p (io), D14 IO, PLL2_OUTn (io), D15 IO, LVDS70n (io), D16 IO, LVDS70p, (CDPCLK5/DQS2R)/(CDPCLK5/DQS2R) (io), E13 IO, LVDS72n, DQ0R3/DQ1R3 (io), E14 IO, PLL2_OUTp (io), E15 IO, LVDS68n, DQ0R1/DQ1R1 (io), E16 IO, LVDS68p, DQ0R0/DQ1R0 (io), F13 IO, LVDS72p, DQ0R2/DQ1R2 (io), F14 IO, VREFB5N0 (io), F15 IO, LVDS75n, DQ0R7/DQ1R7 (io), F16 IO, LVDS75p, DQ0R6/DQ1R6 (io), G12 IO, LVDS73n, DQ0R5/DQ1R5 (io), G13 IO, LVDS73p, DQ0R4/DQ1R4 (io), G15 IO, LVDS76p, _/DQ1R8 (io), G16 IO, LVDS76n, DM0R/(DM1R0/BWS#1R0) (io), H12 IO, LVDS77n, DQ1R0/DQ1R9 (io), H13 IO, VREFB5N1 (io), J12 IO, LVDS77p, (DPCLK7/DQS0R)/(DPCLK7/DQS0R) (io)
part F pins: K13 IO (io), K15 IO, LVDS78p, (DPCLK6/DQS1R)/(DPCLK6/DQS1R) (io), K16 IO, LVDS78n, DQ1R1/DQ1R10 (io), L14 IO, VREFB6N0 (io), L15 IO, LVDS80n, DQ1R3/DQ1R12 (io), L16 IO, LVDS80p, DQ1R2/DQ1R11 (io), M14 IO, VREFB6N1 (io), M15 IO, LVDS85n, DQ1R4/DQ1R13 (io), M16 IO, LVDS85p, (CDPCLK4/DQS3R)/(CDPCLK4/DQS3R) (io), N13 IO, LVDS91n (INIT_DONE) (io), N14 IO, LVDS91p (nCEO) (io), N15 IO, LVDS89n, DQ1R7/DQ1R16 (io), N16 IO, LVDS89p, DQ1R6/DQ1R15 (io), P14 IO, DQ1R5/DQ1R14 (io), P15 IO, PLL4_OUTn, (DM1R/BWS#1R)/(DM1R1/BWS#1R1) (io), P16 IO, PLL4_OUTp, DQ1R8/DQ1R17 (io)
part G pins: N11 IO, VREFB7N0 (io), P11 IO, VREFB7N1 (io), P12 IO, LVDS97p, DQ0B6/DQ1B6 (io), P13 IO, LVDS97n, DQ0B5/DQ1B5 (io), R10 IO, LVDS101p, (DPCLK5/DQS2B)/(DPCLK5/DQS2B) (io), R11 IO, LVDS108n, DM0B/DQ1B8 (io), R12 IO, LVDS95n, DQ0B4/DQ1B4 (io), R13 IO, LVDS93n, DQ0B2/DQ1B2 (io), R14 IO, LVDS92n, DQ0B0/DQ1B0 (io), T10 IO, LVDS101n, DQ0B7/DQ1B7 (io), T11 IO, LVDS108p, (DPCLK4/DQS4B)/(DPCLK4/DQS4B) (io), T12 IO, LVDS95p, (CDPCLK3/DQS0B)/(CDPCLK3/DQS0B) (io), T13 IO, LVDS93p, DQ0B3/DQ1B3 (io), T14 IO, LVDS92p, DQ0B1/DQ1B1 (io)
part H pins: N6 IO, LVDS116n, DQ1B2/DQ1B11 (io), N7 IO, VREFB8N1 (io), N8 IO, VREFB8N0 (io), P4 IO, LVDS126n, DQ1B7/DQ1B16 (io), P5 IO, LVDS126p, DQ1B8/DQ1B17 (io), P6 IO, LVDS116p, DQ1B3/DQ1B12 (io), R3 IO, LVDS127n (DEV_OE) (io), R4 IO, LVDS125n, DQ1B5/DQ1B14 (io), R5 IO, LVDS124n, DQ1B4/DQ1B13 (io), R6 IO, LVDS117n (io), R7 IO, LVDS113n, DQ1B0/DQ1B9 (io), R8 IO, LVDS109n, _/(DM1B0/BWS#1B0) (io), T3 IO, LVDS127p, (DM1B/BWS#1B)/(DM1B1/BWS#1B1) (io), T4 IO, LVDS125p, DQ1B6/DQ1B15 (io), T5 IO, LVDS124p, (CDPCLK2/DQS1B)/(CDPCLK2/DQS1B) (io), T6 IO, LVDS117p, (DPCLK2/DQS3B)/(DPCLK2/DQS3B) (io), T7 IO, LVDS113p, DQ1B1/DQ1B10 (io), T8 IO, LVDS109p, (DPCLK3/DQS5B)/(DPCLK3/DQS5B) (io)
part I pins: F1 DATA0 (in), F2 TCK (in), G1 TMS (in), G2 TDO (out), G5 nCE (in), H4 DCLK (io), H5 TDI (in), J5 nCONFIG (in), J13 MSEL0 (in), K12 MSEL1 (in), L13 CONF_DONE (io), M13 nSTATUS (io)
part J pins: A2 VCCIO3 (power), A15 VCCIO4 (power), B1 VCCIO2 (power), B16 VCCIO5 (power), C7 VCCIO3 (power), C10 VCCIO4 (power), E7 VCCIO3 (power), E10 VCCIO4 (power), F9 VCCINT (power), F10 VCCINT (power), G3 VCCIO2 (power), G7 VCCINT (power), G9 VCCINT (power), G11 VCCINT (power), G14 VCCIO5 (power), H7 VCCINT (power), H10 VCCINT (power), H11 VCCINT (power), J6 VCCINT (power), J7 VCCINT (power), J10 VCCINT (power), K3 VCCIO1 (power), K6 VCCINT (power), K8 VCCINT (power), K10 VCCINT (power), K14 VCCIO6 (power), L7 VCCINT (power), L8 VCCINT (power), M7 VCCIO8 (power), M10 VCCIO7 (power), P7 VCCIO8 (power), P10 VCCIO7 (power), R1 VCCIO1 (power), R16 VCCIO6 (power), T2 VCCIO8 (power), T15 VCCIO7 (power)
part K pins: A1 GND (power), A16 GND (power), B2 GND (power), B15 GND (power), C8 GND (power), C9 GND (power), E8 GND (power), E9 GND (power), F7 GND (power), F8 GND (power), G6 GND (power), G8 GND (power), G10 GND (power), H3 GND (power), H6 GND (power), H8 GND (power), H9 GND (power), H14 GND (power), J3 GND (power), J8 GND (power), J9 GND (power), J11 GND (power), J14 GND (power), K7 GND (power), K9 GND (power), K11 GND (power), L9 GND (power), L10 GND (power), M8 GND (power), M9 GND (power), P8 GND (power), P9 GND (power), R2 GND (power), R15 GND (power), T1 GND (power), T16 GND (power)
part L pins: D5 GND_PLL3 (power), D12 GND_PLL2 (power), E5 VCCD_PLL3 (power), E6 GNDA_PLL3 (power), E11 GNDA_PLL2 (power), E12 VCCA_PLL2 (power), F5 GND_PLL3 (power), F6 VCCA_PLL3 (power), F11 VCCD_PLL2 (power), F12 GND_PLL2 (power), L5 GND_PLL1 (power), L6 VCCD_PLL1 (power), L11 VCCA_PLL4 (power), L12 GND_PLL4 (power), M5 VCCA_PLL1 (power), M6 GNDA_PLL1 (power), M11 GNDA_PLL4 (power), M12 VCCD_PLL4 (power), N5 GND_PLL1 (power), N12 GND_PLL4 (power)
part M pins: A8 CLK10, LVDSCLK5n INPUT (in), A9 CLK8, LVDSCLK4n INPUT (in), B8 CLK11, LVDSCLK5p INPUT (in), B9 CLK9, LVDSCLK4p INPUT (in), H1 CLK1, LVDSCLK0n INPUT (in), H2 CLK0, LVDSCLK0p INPUT (in), H15 CLK5, LVDSCLK2n INPUT (in), H16 CLK4, LVDSCLK2p INPUT (in), J1 CLK3, LVDSCLK1n INPUT (in), J2 CLK2, LVDSCLK1p INPUT (in), J15 CLK6, LVDSCLK3p INPUT (in), J16 CLK7, LVDSCLK3n INPUT (in), N9 CLK13, LVDSCLK6p INPUT (in), N10 CLK12, LVDSCLK6n INPUT (in), R9 CLK14, LVDSCLK7n INPUT (in), T9 CLK15, LVDSCLK7p INPUT (in)
part A text: BANK 1
part B text: BANK 2
part C text: BANK 3
part D text: BANK 4
part E text: BANK 5
part F text: BANK 6
part G text: BANK 7
part H text: BANK 8

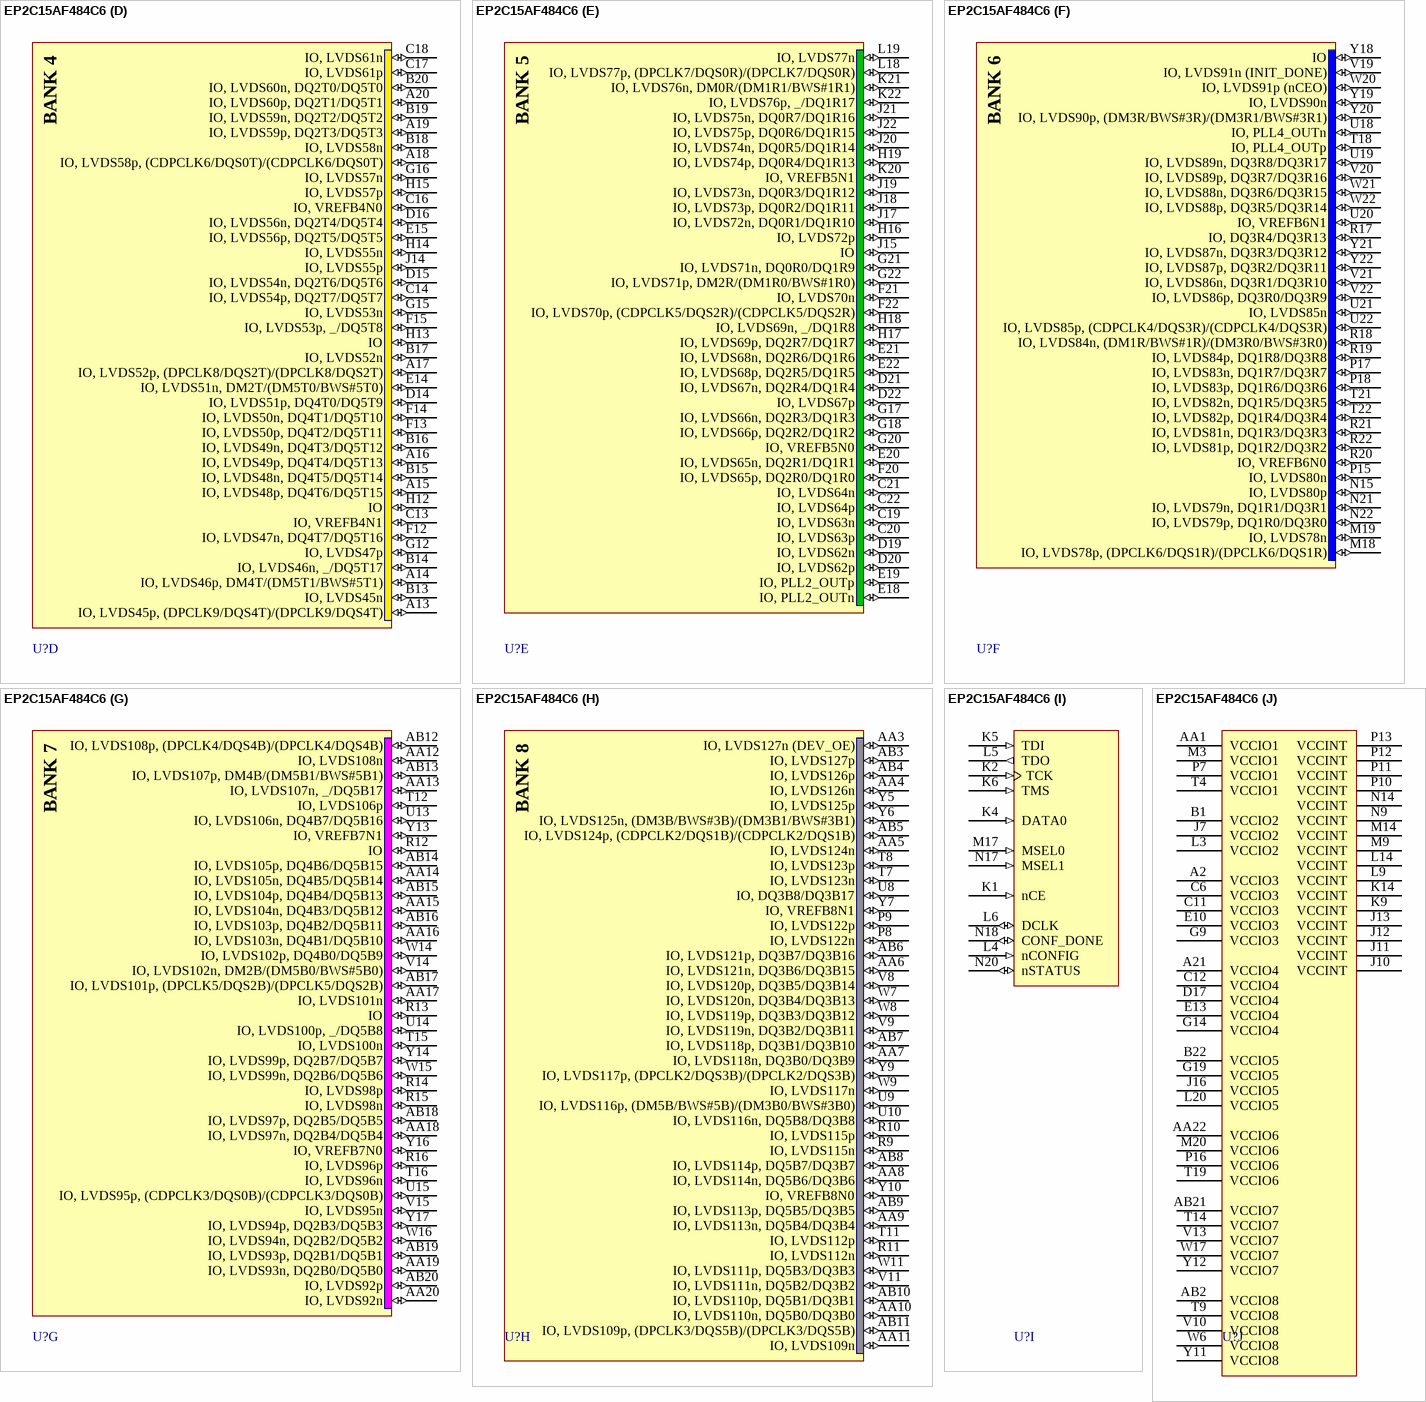
[diagram p81: symbol EP2C15AF484C6]

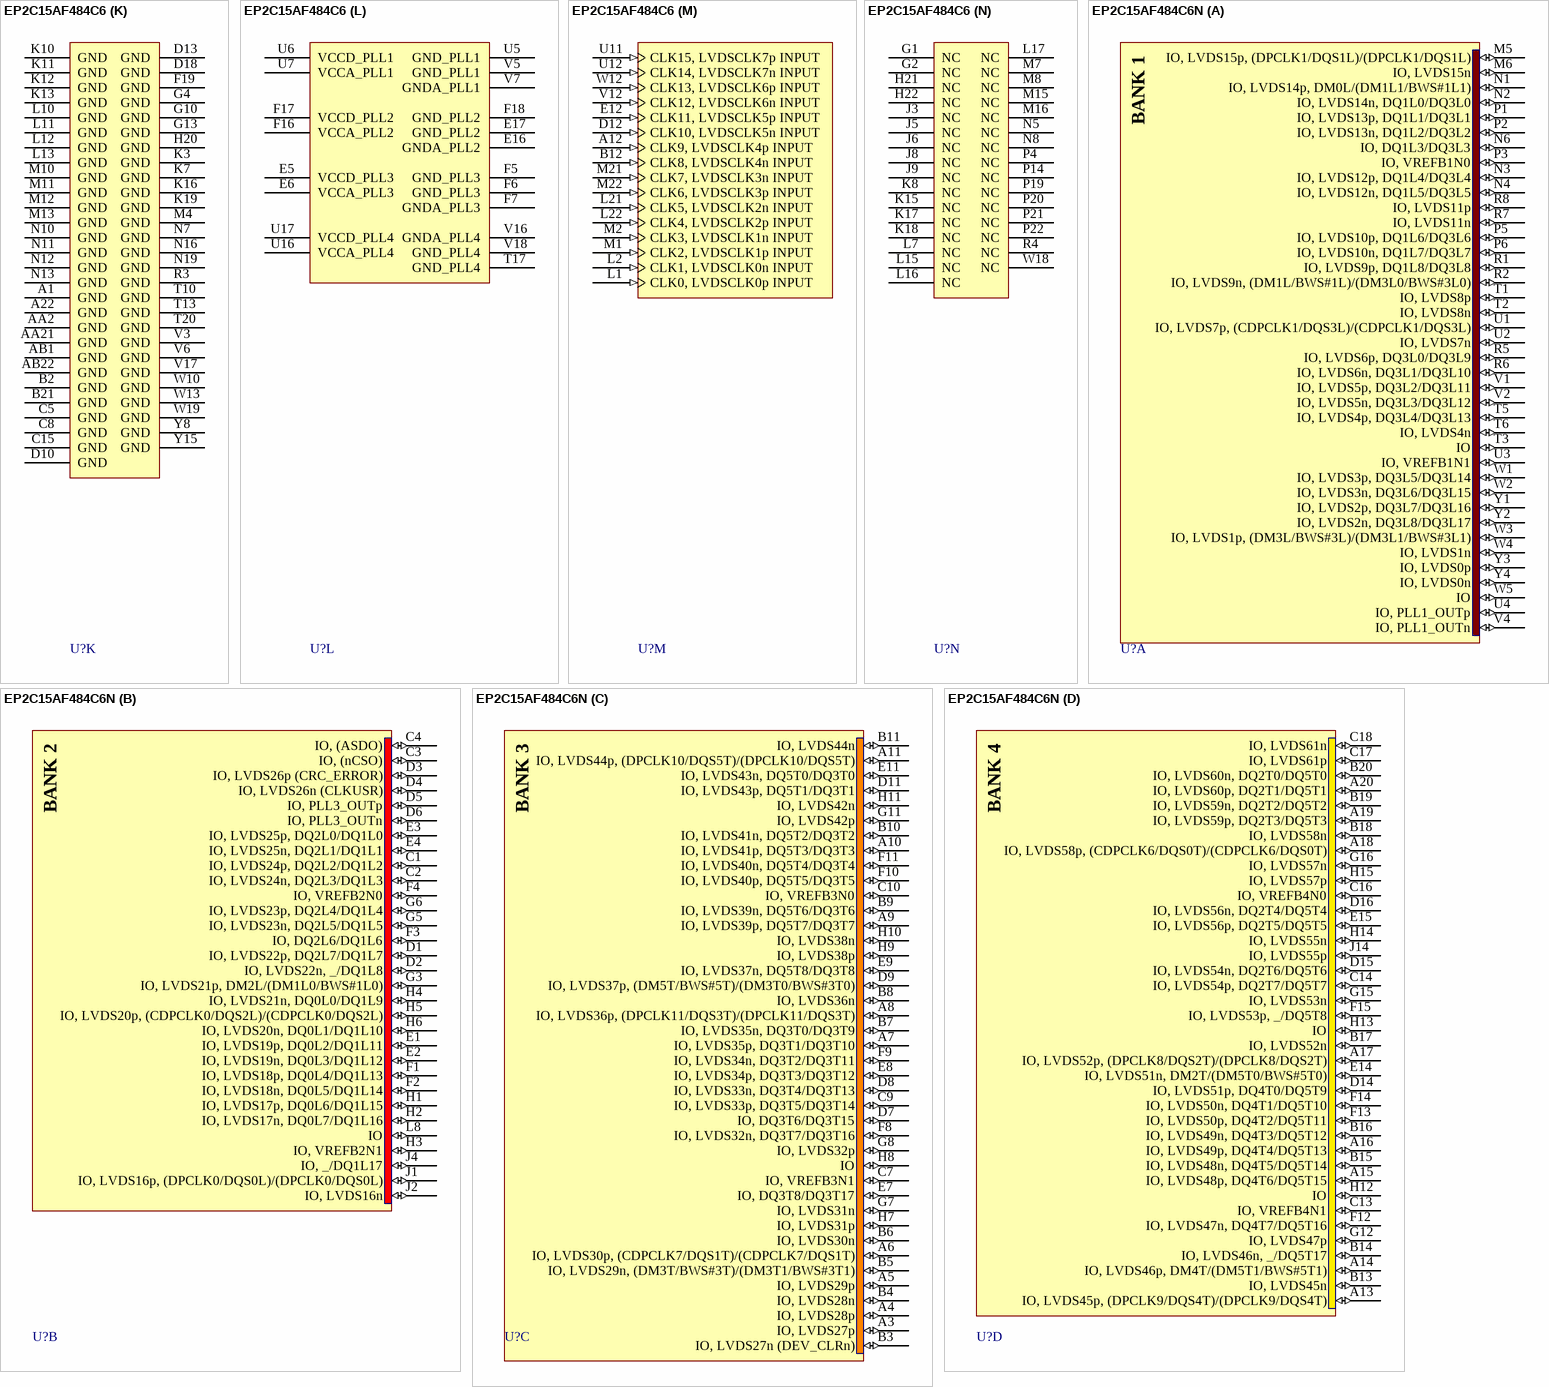
[diagram p82: symbols EP2C15AF484C6 to EP2C15AF484C6N]